# Altium schematic symbol library dungvh03-CERN_AnalogInterface.SchLib: 1053 symbols (part 11 of 12)
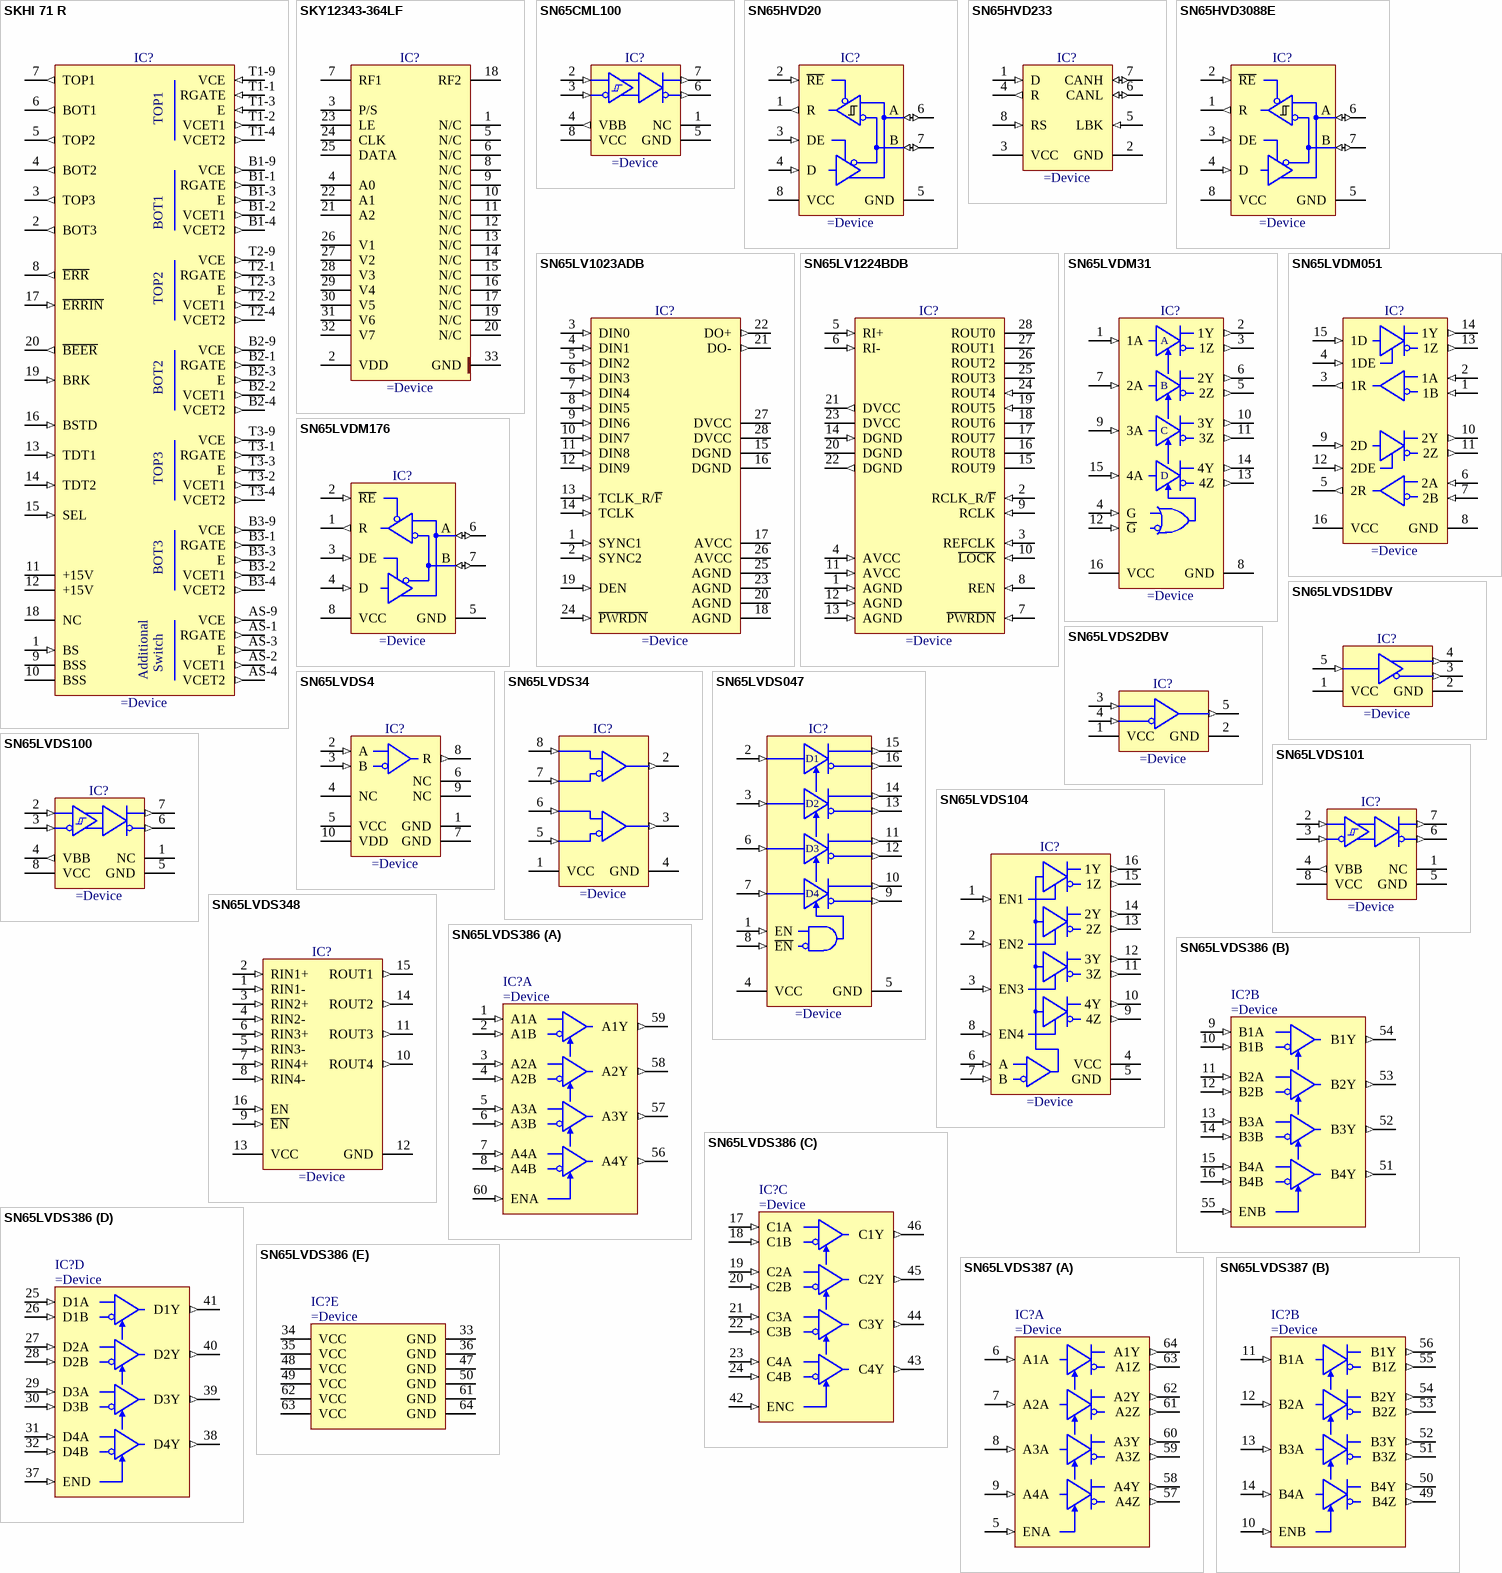
[diagram p77: symbols SKHI 71 R to SN65LVDS387]

## SN65LVDS101
designator IC?
Differential LVPECL Translator/Repeater
pins: 1 NC, 2 A (in), 3 B (in), 4 VBB (out), 5 GND (power), 6 Z (out), 7 Y (out), 8 VCC (power)

## SN65LVDS104
designator IC?
4-Port LVDS repeater
pins: 1 EN1 (in), 2 EN2 (in), 3 EN3 (in), 4 VCC (power), 5 GND (power), 6 A (in), 7 B (in), 8 EN4 (in), 9 4Z (out), 10 4Y (out), 11 3Z (out), 12 3Y (out), 13 2Z (out), 14 2Y (out), 15 1Z (out), 16 1Y (out)

## SN65LVDS348
designator IC?
Quad High-Speed Differential Receiver
pins: 1 RIN1- (in), 2 RIN1+ (in), 3 RIN2+ (in), 4 RIN2- (in), 5 RIN3- (in), 6 RIN3+ (in), 7 RIN4+ (in), 8 RIN4- (in), 9 ~{EN} (in), 10 ROUT4 (out), 11 ROUT3 (out), 12 GND (power), 13 VCC (power), 14 ROUT2 (out), 15 ROUT1 (out), 16 EN (in)

## SN65LVDS386
designator IC?
16 High-Speed Differential Line Receiver
part A pins: 1 A1A (in), 2 A1B (in), 3 A2A (in), 4 A2B (in), 5 A3A (in), 6 A3B (in), 7 A4A (in), 8 A4B (in), 56 A4Y (out), 57 A3Y (out), 58 A2Y (out), 59 A1Y (out), 60 ENA (in)
part B pins: 9 B1A (in), 10 B1B (in), 11 B2A (in), 12 B2B (in), 13 B3A (in), 14 B3B (in), 15 B4A (in), 16 B4B (in), 51 B4Y (out), 52 B3Y (out), 53 B2Y (out), 54 B1Y (out), 55 ENB (in)
part C pins: 17 C1A (in), 18 C1B (in), 19 C2A (in), 20 C2B (in), 21 C3A (in), 22 C3B (in), 23 C4A (in), 24 C4B (in), 42 ENC (in), 43 C4Y (out), 44 C3Y (out), 45 C2Y (out), 46 C1Y (out)
part D pins: 25 D1A (in), 26 D1B (in), 27 D2A (in), 28 D2B (in), 29 D3A (in), 30 D3B (in), 31 D4A (in), 32 D4B (in), 37 END (in), 38 D4Y (out), 39 D3Y (out), 40 D2Y (out), 41 D1Y (out)
part E pins: 33 GND (power), 34 VCC (power), 35 VCC (power), 36 GND (power), 47 GND (power), 48 VCC (power), 49 VCC (power), 50 GND (power), 61 GND (power), 62 VCC (power), 63 VCC (power), 64 GND (power)

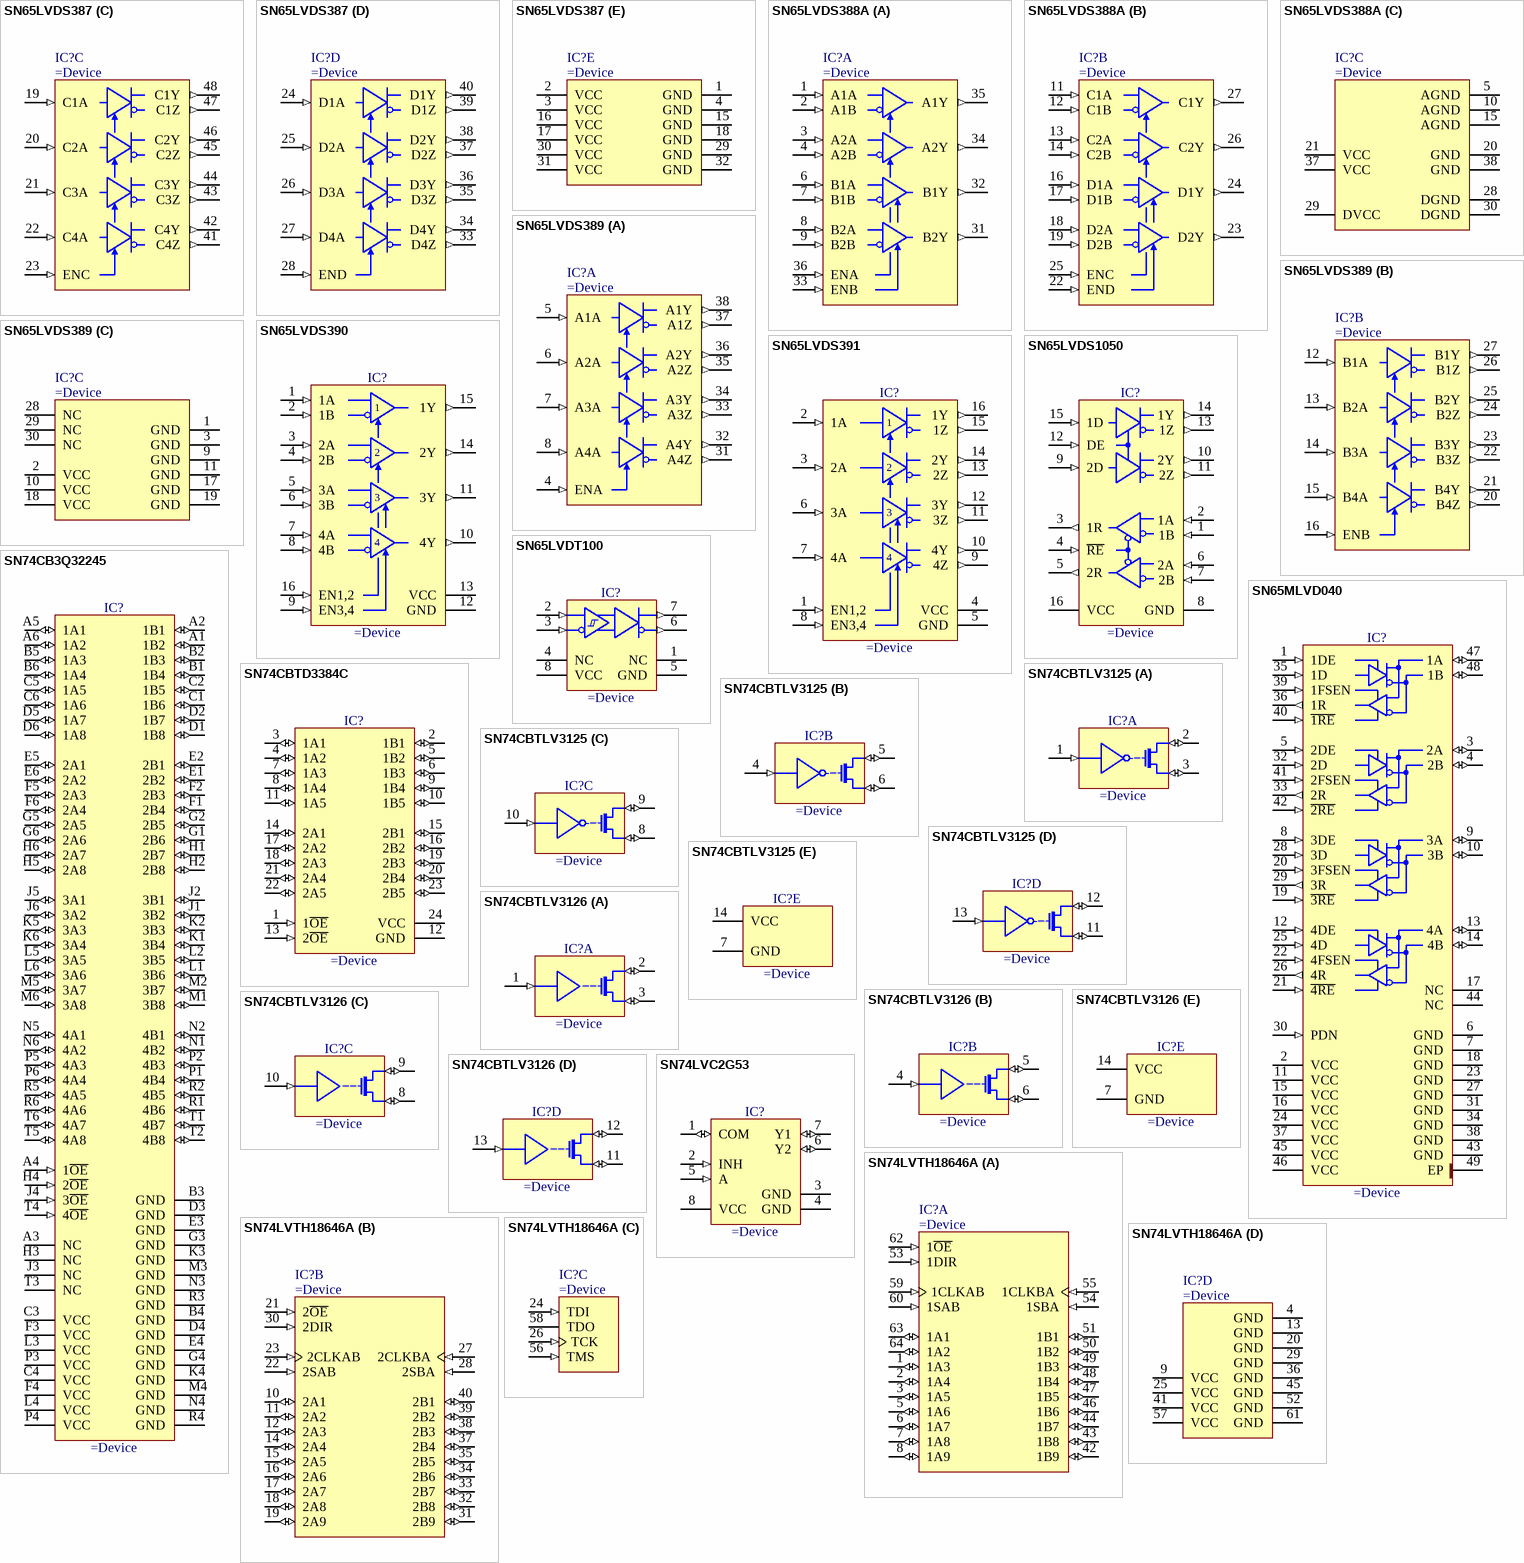
[diagram p58: symbols SN65LVDS387 to SN74LVTH18646A]

## SN65LVDS387
designator IC?
16 High-Speed Differential Line Driver
part A pins: 5 ENA (in), 6 A1A (in), 7 A2A (in), 8 A3A (in), 9 A4A (in), 57 A4Z (out), 58 A4Y (out), 59 A3Z (out), 60 A3Y (out), 61 A2Z (out), 62 A2Y (out), 63 A1Z (out), 64 A1Y (out)
part B pins: 10 ENB (in), 11 B1A (in), 12 B2A (in), 13 B3A (in), 14 B4A (in), 49 B4Z (out), 50 B4Y (out), 51 B3Z (out), 52 B3Y (out), 53 B2Z (out), 54 B2Y (out), 55 B1Z (out), 56 B1Y (out)
part C pins: 19 C1A (in), 20 C2A (in), 21 C3A (in), 22 C4A (in), 23 ENC (in), 41 C4Z (out), 42 C4Y (out), 43 C3Z (out), 44 C3Y (out), 45 C2Z (out), 46 C2Y (out), 47 C1Z (out), 48 C1Y (out)
part D pins: 24 D1A (in), 25 D2A (in), 26 D3A (in), 27 D4A (in), 28 END (in), 33 D4Z (out), 34 D4Y (out), 35 D3Z (out), 36 D3Y (out), 37 D2Z (out), 38 D2Y (out), 39 D1Z (out), 40 D1Y (out)
part E pins: 1 GND (power), 2 VCC (power), 3 VCC (power), 4 GND (power), 15 GND (power), 16 VCC (power), 17 VCC (power), 18 GND (power), 29 GND (power), 30 VCC (power), 31 VCC (power), 32 GND (power)

## SN65LVDS388A
designator IC?
8 High-Speed Differential Line Receiver
part A pins: 1 A1A (in), 2 A1B (in), 3 A2A (in), 4 A2B (in), 6 B1A (in), 7 B1B (in), 8 B2A (in), 9 B2B (in), 31 B2Y (out), 32 B1Y (out), 33 ENB (in), 34 A2Y (out), 35 A1Y (out), 36 ENA (in)
part B pins: 11 C1A (in), 12 C1B (in), 13 C2A (in), 14 C2B (in), 16 D1A (in), 17 D1B (in), 18 D2A (in), 19 D2B (in), 22 END (in), 23 D2Y (out), 24 D1Y (out), 25 ENC (in), 26 C2Y (out), 27 C1Y (out)
part C pins: 5 AGND (power), 10 AGND (power), 15 AGND (power), 20 GND (power), 21 VCC (power), 28 DGND (power), 29 DVCC (power), 30 DGND (power), 37 VCC (power), 38 GND (power)

## SN65LVDS389
designator IC?
8 High-Speed Differential Line Driver
part A pins: 4 ENA (in), 5 A1A (in), 6 A2A (in), 7 A3A (in), 8 A4A (in), 31 A4Z (out), 32 A4Y (out), 33 A3Z (out), 34 A3Y (out), 35 A2Z (out), 36 A2Y (out), 37 A1Z (out), 38 A1Y (out)
part B pins: 12 B1A (in), 13 B2A (in), 14 B3A (in), 15 B4A (in), 16 ENB (in), 20 B4Z (out), 21 B4Y (out), 22 B3Z (out), 23 B3Y (out), 24 B2Z (out), 25 B2Y (out), 26 B1Z (out), 27 B1Y (out)
part C pins: 1 GND (power), 2 VCC (power), 3 GND (power), 9 GND (power), 10 VCC (power), 11 GND (power), 17 GND (power), 18 VCC (power), 19 GND (power), 28 NC, 29 NC, 30 NC

## SN65LVDS390
designator IC?
4 High-Speed Differential Line Receiver
pins: 1 1A (in), 2 1B (in), 3 2A (in), 4 2B (in), 5 3A (in), 6 3B (in), 7 4A (in), 8 4B (in), 9 EN3,4 (in), 10 4Y (out), 11 3Y (out), 12 GND (power), 13 VCC (power), 14 2Y (out), 15 1Y (out), 16 EN1,2 (in)

## SN65LVDS391
designator IC?
4 High-Speed Differential Line Driver
pins: 1 EN1,2 (in), 2 1A (in), 3 2A (in), 4 VCC (power), 5 GND (power), 6 3A (in), 7 4A (in), 8 EN3,4 (in), 9 4Z (out), 10 4Y (out), 11 3Z (out), 12 3Y (out), 13 2Z (out), 14 2Y (out), 15 1Z (out), 16 1Y (out)

## SN65LVDS1050
designator IC?
High-Speed Differential Line Drivers And Receivers
pins: 1 1B (in), 2 1A (in), 3 1R (out), 4 ~{RE} (in), 5 2R (out), 6 2A (in), 7 2B (in), 8 GND (power), 9 2D (in), 10 2Y (out), 11 2Z (out), 12 DE (in), 13 1Z (out), 14 1Y (out), 15 1D (in), 16 VCC (power)

## SN65LVDT100
designator IC?
2Gbps LVDS/LVPECL/CML to LVDS Translator/Repeater
pins: 1 NC, 2 A (in), 3 B (in), 4 NC, 5 GND (power), 6 Z (out), 7 Y (out), 8 VCC (power)

## SN65MLVD040
designator IC?
4-Channel Half-Duplex M-LVDS Line Transceiver
pins: 1 1DE (in), 2 VCC (power), 3 2A (io), 4 2B (io), 5 2DE (in), 6 GND (power), 7 GND (power), 8 3DE (in), 9 3A (io), 10 3B (io), 11 VCC (power), 12 4DE (in), 13 4A (io), 14 4B (io), 15 VCC (power), 16 VCC (power), 17 NC, 18 GND (power), 19 ~{3RE} (in), 20 3FSEN (in), 21 ~{4RE} (in), 22 4FSEN (in), 23 GND (power), 24 VCC (power), 25 4D (in), 26 4R (out), 27 GND (power), 28 3D (in), 29 3R (out), 30 PDN (in), 31 GND (power), 32 2D (in), 33 2R (out), 34 GND (power), 35 1D (in), 36 1R (out), 37 VCC (power), 38 GND (power), 39 1FSEN (in), 40 ~{1RE} (in), 41 2FSEN (in), 42 ~{2RE} (in), 43 GND (power), 44 NC, 45 VCC (power), 46 VCC (power), 47 1A (io), 48 1B (io), 49 EP (power)

## SN74CB3Q32245
designator IC?
32-Bit Bus Switch, 2.5/3.3V High Bandwidth
pins: A1 1B2 (io), A2 1B1 (io), A3 NC, A4 1~{OE} (in), A5 1A1 (io), A6 1A2 (io), B1 1B4 (io), B2 1B3 (io), B3 GND (power), B4 GND (power), B5 1A3 (io), B6 1A4 (io), C1 1B6 (io), C2 1B5 (io), C3 VCC (power), C4 VCC (power), C5 1A5 (io), C6 1A6 (io), D1 1B8 (io), D2 1B7 (io), D3 GND (power), D4 GND (power), D5 1A7 (io), D6 1A8 (io), E1 2B2 (io), E2 2B1 (io), E3 GND (power), E4 GND (power), E5 2A1 (io), E6 2A2 (io), F1 2B4 (io), F2 2B3 (io), F3 VCC (power), F4 VCC (power), F5 2A3 (io), F6 2A4 (io), G1 2B6 (io), G2 2B5 (io), G3 GND (power), G4 GND (power), G5 2A5 (io), G6 2A6 (io), H1 2B7 (io), H2 2B8 (io), H3 NC, H4 2~{OE} (in), H5 2A8 (io), H6 2A7 (io), J1 3B2 (io), J2 3B1 (io), J3 NC, J4 3~{OE} (in), J5 3A1 (io), J6 3A2 (io), K1 3B4 (io), K2 3B3 (io), K3 GND (power), K4 GND (power), K5 3A3 (io), K6 3A4 (io), L1 3B6 (io), L2 3B5 (io), L3 VCC (power), L4 VCC (power), L5 3A5 (io), L6 3A6 (io), M1 3B8 (io), M2 3B7 (io), M3 GND (power), M4 GND (power), M5 3A7 (io), M6 3A8 (io), N1 4B2 (io), N2 4B1 (io), N3 GND (power), N4 GND (power), N5 4A1 (io), N6 4A2 (io), P1 4B4 (io), P2 4B3 (io), P3 VCC (power), P4 VCC (power), P5 4A3 (io), P6 4A4 (io), R1 4B6 (io), R2 4B5 (io), R3 GND (power), R4 GND (power), R5 4A5 (io), R6 4A6 (io), T1 4B7 (io), T2 4B8 (io), T3 NC, T4 4~{OE} (in), T5 4A8 (io), T6 4A7 (io)

## SN74CBTD3384C
designator IC?
10-Bit FET Bus Switches Level Shifting 5V Bus Switch with -2V Undershoot Protection
pins: 1 1~{OE} (in), 2 1B1 (io), 3 1A1 (io), 4 1A2 (io), 5 1B2 (io), 6 1B3 (io), 7 1A3 (io), 8 1A4 (io), 9 1B4 (io), 10 1B5 (io), 11 1A5 (io), 12 GND (power), 13 2~{OE} (in), 14 2A1 (io), 15 2B1 (io), 16 2B2 (io), 17 2A2 (io), 18 2A3 (io), 19 2B3 (io), 20 2B4 (io), 21 2A4 (io), 22 2A5 (io), 23 2B5 (io), 24 VCC (power)

## SN74CBTLV3125
designator IC?
Low-Voltage Quadruple FET Bus Switch
part A pins: 1 ~{OE} (in), 2 A (io), 3 Y (io)
part B pins: 4 ~{OE} (in), 5 A (io), 6 Y (io)
part C pins: 8 Y (io), 9 A (io), 10 ~{OE} (in)
part D pins: 11 Y (io), 12 A (io), 13 ~{OE} (in)
part E pins: 7 GND (power), 14 VCC (power)

## SN74CBTLV3126
designator IC?
Low-Voltage Quadruple FET Bus Switch
part A pins: 1 ~{OE} (in), 2 A (io), 3 Y (io)
part B pins: 4 ~{OE} (in), 5 A (io), 6 Y (io)
part C pins: 8 Y (io), 9 A (io), 10 ~{OE} (in)
part D pins: 11 Y (io), 12 A (io), 13 ~{OE} (in)
part E pins: 7 GND (power), 14 VCC (power)

## SN74LVC2G53
designator IC?
Single-Pole Double-Throw (SPDT) Analog Switch 2:1 Analog Multiplexer/Demultiplexer
pins: 1 COM (io), 2 INH (in), 3 GND (power), 4 GND (power), 5 A (in), 6 Y2 (io), 7 Y1 (io), 8 VCC (power)

## SN74LVTH18646A
designator IC?
3.3V ABT Scan Test Device With 18-Bit Transceivers And Registers
part A pins: 1 1A3 (io) "Normal-function A-bus I/O ports. See function table for normal-mode logic.", 2 1A4 (io) "Normal-function A-bus I/O ports. See function table for normal-mode logic.", 3 1A5 (io) "Normal-function A-bus I/O ports. See function table for normal-mode logic.", 5 1A6 (io) "Normal-function A-bus I/O ports. See function table for normal-mode logic.", 6 1A7 (io) "Normal-function A-bus I/O ports. See function table for normal-mode logic.", 7 1A8 (io) "Normal-function A-bus I/O ports. See function table for normal-mode logic.", 8 1A9 (io) "Normal-function A-bus I/O ports. See function table for normal-mode logic.", 42 1B9 (io) "Normal-function B-bus I/O ports. See function table for normal-mode logic.", 43 1B8 (io) "Normal-function B-bus I/O ports. See function table for normal-mode logic.", 44 1B7 (io) "Normal-function B-bus I/O ports. See function table for normal-mode logic.", 46 1B6 (io) "Normal-function B-bus I/O ports. See function table for normal-mode logic.", 47 1B5 (io) "Normal-function B-bus I/O ports. See function table for normal-mode logic.", 48 1B4 (io) "Normal-function B-bus I/O ports. See function table for normal-mode logic.", 49 1B3 (io) "Normal-function B-bus I/O ports. See function table for normal-mode logic.", 50 1B2 (io) "Normal-function B-bus I/O ports. See function table for normal-mode logic.", 51 1B1 (io) "Normal-function B-bus I/O ports. See function table for normal-mode logic.", 53 1DIR (in) "Normal-function direction controls. See function table for normal-mode logic.", 54 1SBA (in) "Normal-function select controls. See function table for normal-mode logic.", 55 1CLKBA (in) "Normal-function clock inputs. See function table for normal-mode logic.", 59 1CLKAB (in) "Normal-function clock inputs. See function table for normal-mode logic.", 60 1SAB (in) "Normal-function select controls. See function table for normal-mode logic.", 62 1~{OE} (in) "Normal-function output enables. See function table for normal-mode logic. An internal pullup at each terminal forces the terminal to a high level if left unconnected.", 63 1A1 (io) "Normal-function A-bus I/O ports. See function table for normal-mode logic.", 64 1A2 (io) "Normal-function A-bus I/O ports. See function table for normal-mode logic."
part B pins: 10 2A1 (io) "Normal-function A-bus I/O ports. See function table for normal-mode logic.", 11 2A2 (io) "Normal-function A-bus I/O ports. See function table for normal-mode logic.", 12 2A3 (io) "Normal-function A-bus I/O ports. See function table for normal-mode logic.", 14 2A4 (io) "Normal-function A-bus I/O ports. See function table for normal-mode logic.", 15 2A5 (io) "Normal-function A-bus I/O ports. See function table for normal-mode logic.", 16 2A6 (io) "Normal-function A-bus I/O ports. See function table for normal-mode logic.", 17 2A7 (io) "Normal-function A-bus I/O ports. See function table for normal-mode logic.", 18 2A8 (io) "Normal-function A-bus I/O ports. See function table for normal-mode logic.", 19 2A9 (io) "Normal-function A-bus I/O ports. See function table for normal-mode logic.", 21 2~{OE} (in) "Normal-function output enables. See function table for normal-mode logic. An internal pullup at each terminal forces the terminal to a high level if left unconnected.", 22 2SAB (in) "Normal-function select controls. See function table for normal-mode logic.", 23 2CLKAB (in) "Normal-function clock inputs. See function table for normal-mode logic.", 27 2CLKBA (in) "Normal-function clock inputs. See function table for normal-mode logic.", 28 2SBA (in) "Normal-function select controls. See function table for normal-mode logic.", 30 2DIR (in) "Normal-function direction controls. See function table for normal-mode logic.", 31 2B9 (io) "Normal-function B-bus I/O ports. See function table for normal-mode logic.", 32 2B8 (io) "Normal-function B-bus I/O ports. See function table for normal-mode logic.", 33 2B7 (io) "Normal-function B-bus I/O ports. See function table for normal-mode logic.", 34 2B6 (io) "Normal-function B-bus I/O ports. See function table for normal-mode logic.", 35 2B5 (io) "Normal-function B-bus I/O ports. See function table for normal-mode logic.", 37 2B4 (io) "Normal-function B-bus I/O ports. See function table for normal-mode logic.", 38 2B3 (io) "Normal-function B-bus I/O ports. See function table for normal-mode logic.", 39 2B2 (io) "Normal-function B-bus I/O ports. See function table for normal-mode logic.", 40 2B1 (io) "Normal-function B-bus I/O ports. See function table for normal-mode logic."
part C pins: 24 TDI (in) "Test data input. One of four terminals required by IEEE Std 1149.1-1990. TDI is the serial input for shifting data through the instruction register or selected data register. An internal pullup forces TDI to a high level if (See Datasheet)", 26 TCK (in) "Test clock. One of four terminals required by IEEE Std 1149.1-1990. Test operations of the device are synchronous to TCK. Data is captured on the rising edge of TCK and outputs change on the falling edge of TCK.", 56 TMS (in) "Test mode select. One of four terminals required by IEEE Std 1149.1-1990. TMS directs the device through its TAP controller states. An internal pullup forces TMS to a high level if left unconnected.", 58 TDO (hiz) "Test data output. One of four terminals required by IEEE Std 1149.1-1990. TDO is the serial output for shifting data through the instruction register or selected data register."
part D pins: 4 GND (power), 9 VCC (power) "Supply voltage", 13 GND (power), 20 GND (power), 25 VCC (power) "Supply voltage", 29 GND (power), 36 GND (power), 41 VCC (power) "Supply voltage", 45 GND (power), 52 GND (power), 57 VCC (power) "Supply voltage", 61 GND (power)

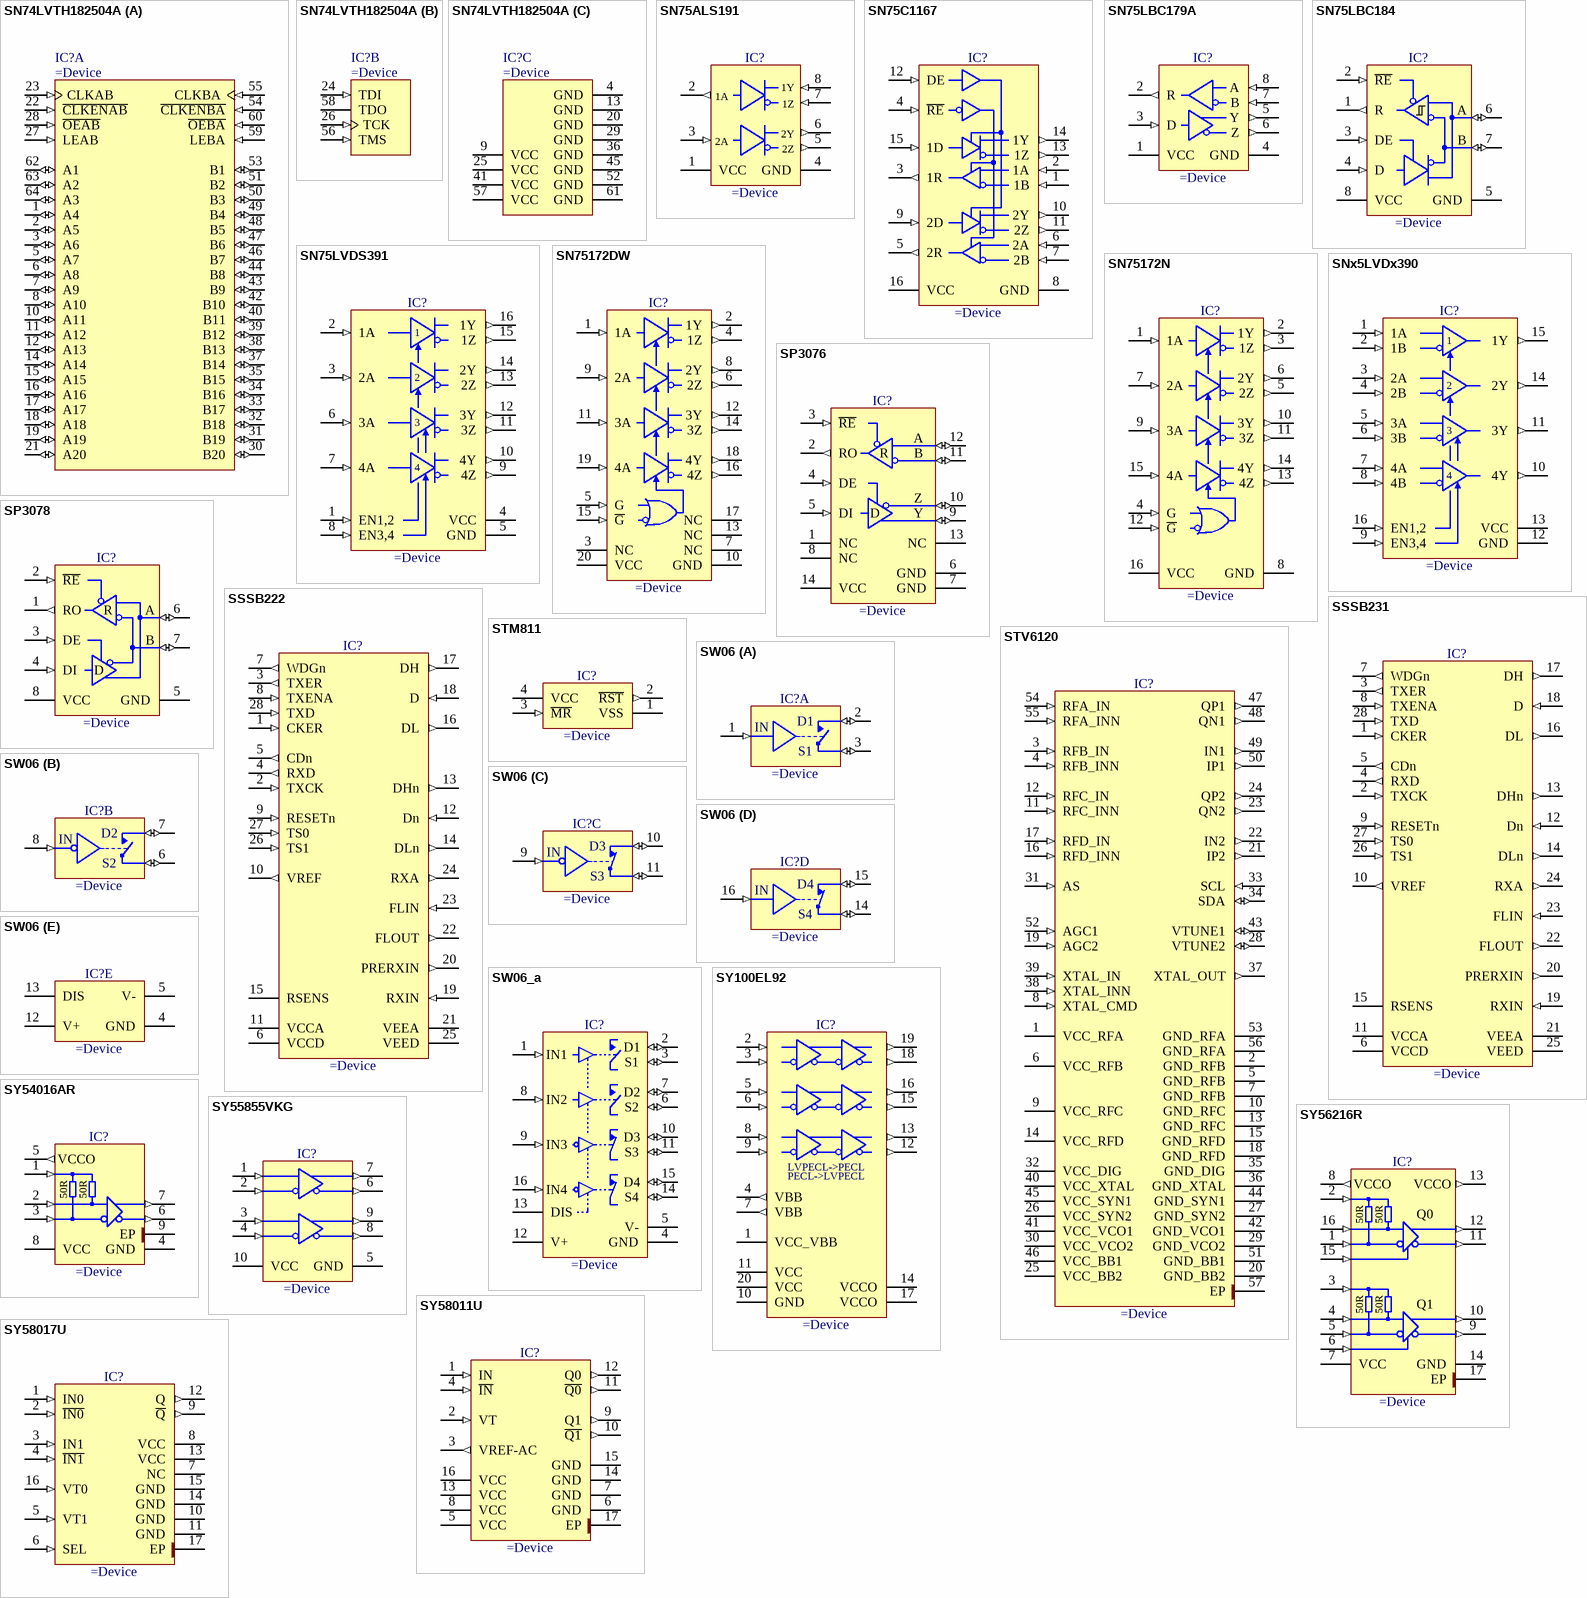
[diagram p59: symbols SN74LVTH182504A to SY58017U]

## SN74LVTH182504A
designator IC?
3.3V ABT Scan Test Device With 20-Bit Universal Bus Transceivers
part A pins: 1 A4 (io) "Normal-function A-bus I/O ports. See function table for normal-mode logic.", 2 A5 (io) "Normal-function A-bus I/O ports. See function table for normal-mode logic.", 3 A6 (io) "Normal-function A-bus I/O ports. See function table for normal-mode logic.", 5 A7 (io) "Normal-function A-bus I/O ports. See function table for normal-mode logic.", 6 A8 (io) "Normal-function A-bus I/O ports. See function table for normal-mode logic.", 7 A9 (io) "Normal-function A-bus I/O ports. See function table for normal-mode logic.", 8 A10 (io) "Normal-function A-bus I/O ports. See function table for normal-mode logic.", 10 A11 (io) "Normal-function A-bus I/O ports. See function table for normal-mode logic.", 11 A12 (io) "Normal-function A-bus I/O ports. See function table for normal-mode logic.", 12 A13 (io) "Normal-function A-bus I/O ports. See function table for normal-mode logic.", 14 A14 (io) "Normal-function A-bus I/O ports. See function table for normal-mode logic.", 15 A15 (io) "Normal-function A-bus I/O ports. See function table for normal-mode logic.", 16 A16 (io) "Normal-function A-bus I/O ports. See function table for normal-mode logic.", 17 A17 (io) "Normal-function A-bus I/O ports. See function table for normal-mode logic.", 18 A18 (io) "Normal-function A-bus I/O ports. See function table for normal-mode logic.", 19 A19 (io) "Normal-function A-bus I/O ports. See function table for normal-mode logic.", 21 A20 (io) "Normal-function A-bus I/O ports. See function table for normal-mode logic.", 22 ~{CLKENAB} (in) "Normal-function clock enables. See function table for normal-mode logic", 23 CLKAB (in) "Normal-function clock inputs. See function table for normal-mode logic.", 27 LEAB (in) "Normal-function latch enables. See function table for normal-mode logic", 28 ~{OEAB} (in) "Normal-function output enables. See function table for normal-mode logic. An internal pullup at each terminal forces the terminal to a high level if left unconnected.", 30 B20 (io) "Normal-function B-bus I/O ports. See function table for normal-mode logic.", 31 B19 (io) "Normal-function B-bus I/O ports. See function table for normal-mode logic.", 32 B18 (io) "Normal-function B-bus I/O ports. See function table for normal-mode logic.", 33 B17 (io) "Normal-function B-bus I/O ports. See function table for normal-mode logic.", 34 B16 (io) "Normal-function B-bus I/O ports. See function table for normal-mode logic.", 35 B15 (io) "Normal-function B-bus I/O ports. See function table for normal-mode logic.", 37 B14 (io) "Normal-function B-bus I/O ports. See function table for normal-mode logic.", 38 B13 (io) "Normal-function B-bus I/O ports. See function table for normal-mode logic.", 39 B12 (io) "Normal-function B-bus I/O ports. See function table for normal-mode logic.", 40 B11 (io) "Normal-function B-bus I/O ports. See function table for normal-mode logic.", 42 B10 (io) "Normal-function B-bus I/O ports. See function table for normal-mode logic.", 43 B9 (io) "Normal-function B-bus I/O ports. See function table for normal-mode logic.", 44 B8 (io) "Normal-function B-bus I/O ports. See function table for normal-mode logic.", 46 B7 (io) "Normal-function B-bus I/O ports. See function table for normal-mode logic.", 47 B6 (io) "Normal-function B-bus I/O ports. See function table for normal-mode logic.", 48 B5 (io) "Normal-function B-bus I/O ports. See function table for normal-mode logic.", 49 B4 (io) "Normal-function B-bus I/O ports. See function table for normal-mode logic.", 50 B3 (io) "Normal-function B-bus I/O ports. See function table for normal-mode logic.", 51 B2 (io) "Normal-function B-bus I/O ports. See function table for normal-mode logic.", 53 B1 (io) "Normal-function B-bus I/O ports. See function table for normal-mode logic.", 54 ~{CLKENBA} (in) "Normal-function clock enables. See function table for normal-mode logic", 55 CLKBA (in) "Normal-function clock inputs. See function table for normal-mode logic.", 59 LEBA (in) "Normal-function latch enables. See function table for normal-mode logic", 60 ~{OEBA} (in) "Normal-function output enables. See function table for normal-mode logic. An internal pullup at each terminal forces the terminal to a high level if left unconnected.", 62 A1 (io) "Normal-function A-bus I/O ports. See function table for normal-mode logic.", 63 A2 (io) "Normal-function A-bus I/O ports. See function table for normal-mode logic.", 64 A3 (io) "Normal-function A-bus I/O ports. See function table for normal-mode logic."
part B pins: 24 TDI (in) "Test data input. One of four terminals required by IEEE Std 1149.1-1990. TDI is the serial input for shifting data through the instruction register or selected data register. An internal pullup forces TDI to a high level if (See Datasheet)", 26 TCK (in) "Test clock. One of four terminals required by IEEE Std 1149.1-1990. Test operations of the device are synchronous to TCK. Data is captured on the rising edge of TCK and outputs change on the falling edge of TCK.", 56 TMS (in) "Test mode select. One of four terminals required by IEEE Std 1149.1-1990. TMS directs the device through its TAP controller states. An internal pullup forces TMS to a high level if left unconnected.", 58 TDO (hiz) "Test data output. One of four terminals required by IEEE Std 1149.1-1990. TDO is the serial output for shifting data through the instruction register or selected data register."
part C pins: 4 GND (power) "Ground", 9 VCC (power) "Supply voltage", 13 GND (power) "Ground", 20 GND (power) "Ground", 25 VCC (power) "Supply voltage", 29 GND (power) "Ground", 36 GND (power) "Ground", 41 VCC (power) "Supply voltage", 45 GND (power) "Ground", 52 GND (power) "Ground", 57 VCC (power) "Supply voltage", 61 GND (power) "Ground"

## SN75ALS191
designator IC?
Dual Differential Line Driver
pins: 1 VCC (power), 2 1A (out), 3 2A (in), 4 GND (power), 5 2Z (out), 6 2Y (out), 7 1Z (in), 8 1Y (in)

## SN75C1167
designator IC?
Dual Differential Drivers And Receivers
pins: 1 1B (in), 2 1A (in), 3 1R (out), 4 ~{RE} (in), 5 2R (out), 6 2A (in), 7 2B (in), 8 GND (power), 9 2D (in), 10 2Y (out), 11 2Z (out), 12 DE (in), 13 1Z (out), 14 1Y (out), 15 1D (in), 16 VCC (power)

## SN75LBC179A
designator IC?
RS-485 Low-Power Differential Line Driver And Receiver Pairs
pins: 1 VCC (power), 2 R (out), 3 D (in), 4 GND (power), 5 Y (out), 6 Z (out), 7 B (in), 8 A (in)

## SN75LBC184
designator IC?
Differential Transceiver with Transient Voltage Suppression
pins: 1 R (out), 2 ~{RE} (in), 3 DE (in), 4 D (in), 5 GND (power), 6 A (io), 7 B (io), 8 VCC (power)

## SN75LVDS391
designator IC?
4 High-Speed Differential Line Driver
pins: 1 EN1,2 (in), 2 1A (in), 3 2A (in), 4 VCC (power), 5 GND (power), 6 3A (in), 7 4A (in), 8 EN3,4 (in), 9 4Z (out), 10 4Y (out), 11 3Z (out), 12 3Y (out), 13 2Z (out), 14 2Y (out), 15 1Z (out), 16 1Y (out)

## SN75172DW
designator IC?
Quadruple Differential Line Driver
pins: 1 1A (in), 2 1Y (out), 3 NC, 4 1Z (out), 5 G (in), 6 2Z (out), 7 NC, 8 2Y (out), 9 2A (in), 10 GND (power), 11 3A (in), 12 3Y (out), 13 NC, 14 3Z (out), 15 ~{G} (in), 16 4Z (out), 17 NC, 18 4Y (out), 19 4A (in), 20 VCC (power)

## SN75172N
designator IC?
Quadruple Differential Line Driver
pins: 1 1A (in), 2 1Y (out), 3 1Z (out), 4 G (in), 5 2Z (out), 6 2Y (out), 7 2A (in), 8 GND (power), 9 3A (in), 10 3Y (out), 11 3Z (out), 12 ~{G} (in), 13 4Z (out), 14 4Y (out), 15 4A (in), 16 VCC (power)

## SNx5LVDx390
designator IC?
4 High-Speed Differential Line Receiver
pins: 1 1A (in), 2 1B (in), 3 2A (in), 4 2B (in), 5 3A (in), 6 3B (in), 7 4A (in), 8 4B (in), 9 EN3,4 (in), 10 4Y (out), 11 3Y (out), 12 GND (power), 13 VCC (power), 14 2Y (out), 15 1Y (out), 16 EN1,2 (in)

## SP3076
designator IC?
16Mbps ±15kV ESD-Protected, Full Duplex, Failsafe RS-485/RS422 Transceivers, 3.3V
pins: 1 NC, 2 RO (out), 3 ~{RE} (in), 4 DE (in), 5 DI (in), 6 GND (power), 7 GND (power), 8 NC, 9 Y (io), 10 Z (io), 11 B (io), 12 A (io), 13 NC, 14 VCC (power)
text: R; D

## SP3078
designator IC?
16Mbps ±15kV ESD-Protected, Half Duplex RS-485/RS422 Transceiver
pins: 1 RO (out), 2 ~{RE} (in), 3 DE (in), 4 DI (in), 5 GND (power), 6 A (io), 7 B (io), 8 VCC (power)
text: R; D

## SSSB222
designator IC?
FIELDDRIVE line driver
pins: 1 CKER (in) "Transmit error detect clock", 2 TXCK (in) "Half bit clock", 3 TXER (out) "Transmit data error", 4 RXD (out) "Received data", 5 CDn (out) "Carrier detect", 6 VCCD (power) "Digital positive supply +5V", 7 WDGn (out) "Transmitter watchdog", 8 TXENA (in) "Transmit data enable", 9 RESETn (in) "Initialization control", 10 VREF (out) "Voltage reference", 11 VCCA (power) "Analog positive supply +5V", 12 Dn (in) "Differential data line", 13 DHn (out) "Differential transmitter data", 14 DLn (out) "Differential transmitter data", 15 RSENS (power) "Driver supply", 16 DL (out) "Differential transmitter data", 17 DH (out) "Differential transmitter data", 18 D (in) "Differential data line", 19 RXIN (in) "Analog comparators", 20 PRERXIN (out) "Received, filtered an adapted data", 21 VEEA (power) "Analog ground", 22 FLOUT (out) "Active filter output", 23 FLIN (in) "Active filter input", 24 RXA (out) "Differential amplifier output", 25 VEED (power) "Digital ground", 26 TS1 (in) "TTL Input", 27 TS0 (in) "Test", 28 TXD (in) "Transmit data"

## SSSB231
designator IC?
FIELDDRIVE line driver
pins: 1 CKER (in) "Transmit error detect clock", 2 TXCK (in) "Half bit clock", 3 TXER (out) "Transmit data error", 4 RXD (out) "Received data", 5 CDn (out) "Carrier detect", 6 VCCD (power) "Digital positive supply +5V", 7 WDGn (out) "Transmitter watchdog", 8 TXENA (in) "Transmit data enable", 9 RESETn (in) "Initialization control", 10 VREF (out) "Voltage reference", 11 VCCA (power) "Analog positive supply +5V", 12 Dn (in) "Differential data line", 13 DHn (out) "Differential transmitter data", 14 DLn (out) "Differential transmitter data", 15 RSENS (power) "Driver supply", 16 DL (out) "Differential transmitter data", 17 DH (out) "Differential transmitter data", 18 D (in) "Differential data line", 19 RXIN (in) "Analog comparators", 20 PRERXIN (out) "Received, filtered an adapted data", 21 VEEA (power) "Analog ground", 22 FLOUT (out) "Active filter output", 23 FLIN (in) "Active filter input", 24 RXA (out) "Differential amplifier output", 25 VEED (power) "Digital ground", 26 TS1 (in) "TTL Input", 27 TS0 (in) "Test", 28 TXD (in) "Transmit data"

## STM811
designator IC?
Microprocessor Reset Circuit
pins: 1 VSS (power), 2 ~{RST} (out), 3 ~{MR} (in), 4 VCC (power)

## STV6120
designator IC?
8PSK/QPSK Low-Power 3.3V Dual Wide-Band Satellite Tuner IC
pins: 1 VCC_RFA (power) "VLNA supply voltage (RFA input)", 2 GND_RFB (power) "Ground for VLNA (RFB input)", 3 RFB_IN (in) "RFB positive input", 4 RFB_INN (in) "RFB AC grounded input or RFB negative input", 5 GND_RFB (power) "Ground for VLNA (RFB input)", 6 VCC_RFB (power) "VLNA supply voltage (RFB input)", 7 GND_RFB (power) "Ground for VLNA (RFB input)", 8 XTAL_CMD (in) "Mode select for reference path (internal 66-k pull-up resistor)", 9 VCC_RFC (power) "VLNA supply voltage (RFC input)", 10 GND_RFC (power) "Ground for VLNA (RFC input)", 11 RFC_INN (in) "RFC AC grounded input or negative input", 12 RFC_IN (in) "RFC positive input", 13 GND_RFC (power) "Ground for VLNA (RFC input)", 14 VCC_RFD (power) "VLNA supply voltage (RFD input)", 15 GND_RFD (power) "Ground for VLNA (RFD input)", 16 RFD_INN (in) "RFD AC grounded input or negative input", 17 RFD_IN (in) "RFD positive input", 18 GND_RFD (power) "Ground for VLNA (RFD input)", 19 AGC2 (in) "Automatic gain control input path 2", 20 GND_BB2 (power) "Ground base band path 2", 21 IP2 (out) "Positive base band in phase output path 2", 22 IN2 (out) "Negative base band in phase output path 2", 23 QN2 (out) "Negative base band in quadrature output path 2", 24 QP2 (out) "Positive base band in quadrature output path 2", 25 VCC_BB2 (power) "Base band path 2 power supply", 26 VCC_SYN2 (power) "Synthesizer path 2 power supply", 27 GND_SYN2 (power) "Ground for synthesizer path 2", 28 VTUNE2 (io) "Tuning voltage for path 2", 29 GND_VCO2 (power) "Ground for VCO path 2", 30 VCC_VCO2 (power) "VCO path 2 power supply", 31 AS (in) "Address select (internal 66-k pull-up resistor)", 32 VCC_DIG (power) "Digital supply voltage", 33 SCL (in) "2-wire bus data input (internal 5-k pull-up resistor)", 34 SDA (io) "2-wire bus clock input (internal 5-k pull-up resistor)", 35 GND_DIG (power) "Ground for digital", 36 GND_XTAL (power) "Ground for crystal oscillator", 37 XTAL_OUT (out) "Crystal oscillator output for demodulator", 38 XTAL_INN (in) "Crystal oscillator input 2 (inverted input)", 39 XTAL_IN (in) "Crystal oscillator input 1", 40 VCC_XTAL (power) "Crystal oscillator supply voltage", 41 VCC_VCO1 (power) "VCO path 1 supply voltage", 42 GND_VCO1 (power) "Ground for VCO path 1", 43 VTUNE1 (io) "Tuning voltage for path 1", 44 GND_SYN1 (power) "Ground for synthesizer path 1", 45 VCC_SYN1 (power) "Synthesizer path 1 power supply", 46 VCC_BB1 (power) "Base band path 1 power supply", 47 QP1 (out) "Positive base band in quadrature output path 1", 48 QN1 (out) "Negative base band in quadrature output path 1", 49 IN1 (out) "Negative base band in phase output path 1", 50 IP1 (out) "Positive base band in phase output path 1", 51 GND_BB1 (power) "Ground for base band path 1", 52 AGC1 (in) "Automatic gain control input path 1", 53 GND_RFA (power) "Ground for VLNA (RFA input)", 54 RFA_IN (in) "RFA positive input", 55 RFA_INN (in) "RFC AC grounded input or negative input", 56 GND_RFA (power) "Ground for VLNA (RFA input)", 57 EP (power)

## SW06
designator IC?
Quad SPST JFET Analog Switch
part A pins: 1 IN (in), 2 D (io), 3 S (io)
part B pins: 6 S (io), 7 D (io), 8 IN (in)
part C pins: 9 IN (in), 10 D (io), 11 S (io)
part D pins: 14 S (io), 15 D (io), 16 IN (in)
part E pins: 4 GND (power), 5 V- (power), 12 V+ (power), 13 DIS (power)
part A text: D1; S1
part B text: D2; S2
part C text: D3; S3
part D text: D4; S4

## SW06_a
designator IC?
Quad SPST JFET Analog Switch
pins: 1 IN1 (in), 2 D1 (io), 3 S1 (io), 4 GND (power), 5 V- (power), 6 S2 (io), 7 D2 (io), 8 IN2 (in), 9 IN3 (in), 10 D3 (io), 11 S3 (io), 12 V+ (power), 13 DIS (power), 14 S4 (io), 15 D4 (io), 16 IN4 (in)

## SY100EL92
designator IC?
Triple LVPECL-to-PECL or PECL-to-LVPECL Translator
pins: 1 VCC_VBB (power), 2 D0 (in), 3 ~{D0} (in), 4 VBB (out), 5 D1 (in), 6 ~{D1} (in), 7 VBB (out), 8 D2 (in), 9 ~{D2} (in), 10 GND (power), 11 VCC (power), 12 ~{Q2} (out), 13 Q2 (out), 14 VCCO (power), 15 ~{Q1} (out), 16 Q1 (out), 17 VCCO (power), 18 ~{Q0} (out), 19 Q0 (out), 20 VCC (power)
text: LVPECL->PECL; PECL->LVPECL

## SY54016AR
designator IC?
Low Voltage 1.2V/1.8V CML Differential Line Driver/Receiver 3.2Gbps, 3.2GHz
pins: 1 VT (in), 2 IN (in), 3 ~{IN} (in), 4 GND (power), 5 VCCO (out), 6 ~{Q} (out), 7 Q (out), 8 VCC (power), 9 EP (power)
text: 50R

## SY55855VKG
designator IC?
Dual CML/PECL/LVPECL-to-LVDS Translator
pins: 1 D0 (in), 2 ~{D0} (in), 3 D1 (in), 4 ~{D1} (in), 5 GND (power), 6 ~{Q1} (out), 7 Q1 (out), 8 ~{Q0} (out), 9 Q0 (out), 10 VCC (power)

## SY56216R
designator IC?
Low Voltage 1.2V/1.8V/2.5V CML Dual Channel Buffer 4.5GHz/6.4Gbps with Equalization
pins: 1 ~{IN0} (in), 2 VT0 (in), 3 VT1 (in), 4 IN1 (in), 5 ~{IN1} (in), 6 EQ1 (in), 7 VCC (power), 8 VCCO (out), 9 ~{Q1} (out), 10 Q1 (out), 11 ~{Q0} (out), 12 Q0 (out), 13 VCCO (out), 14 GND (power), 15 EQ0 (in), 16 IN0 (in), 17 EP (power)
text: 50R

## SY58011U
designator IC?
7GHz 1:2 CML Fanout Buffer/Translator w/400mv CML Outputs and Internal Input Termination
pins: 1 IN (in), 2 VT (in), 3 VREF-AC (out), 4 ~{IN} (in), 5 VCC (power), 6 GND (power), 7 GND (power), 8 VCC (power), 9 Q1 (out), 10 ~{Q1} (out), 11 ~{Q0} (out), 12 Q0 (out), 13 VCC (power), 14 GND (power), 15 GND (power), 16 VCC (power), 17 EP (power)

## SY58017U
designator IC?
10.7Gbps Differential CML 2:1 MUX with Internal Termination
pins: 1 IN0 (in), 2 ~{IN0} (in), 3 IN1 (in), 4 ~{IN1} (in), 5 VT1 (in), 6 SEL (in), 7 NC, 8 VCC (power), 9 ~{Q} (out), 10 GND (power), 11 GND (power), 12 Q (out), 13 VCC (power), 14 GND (power), 15 GND (power), 16 VT0 (in), 17 EP (power)

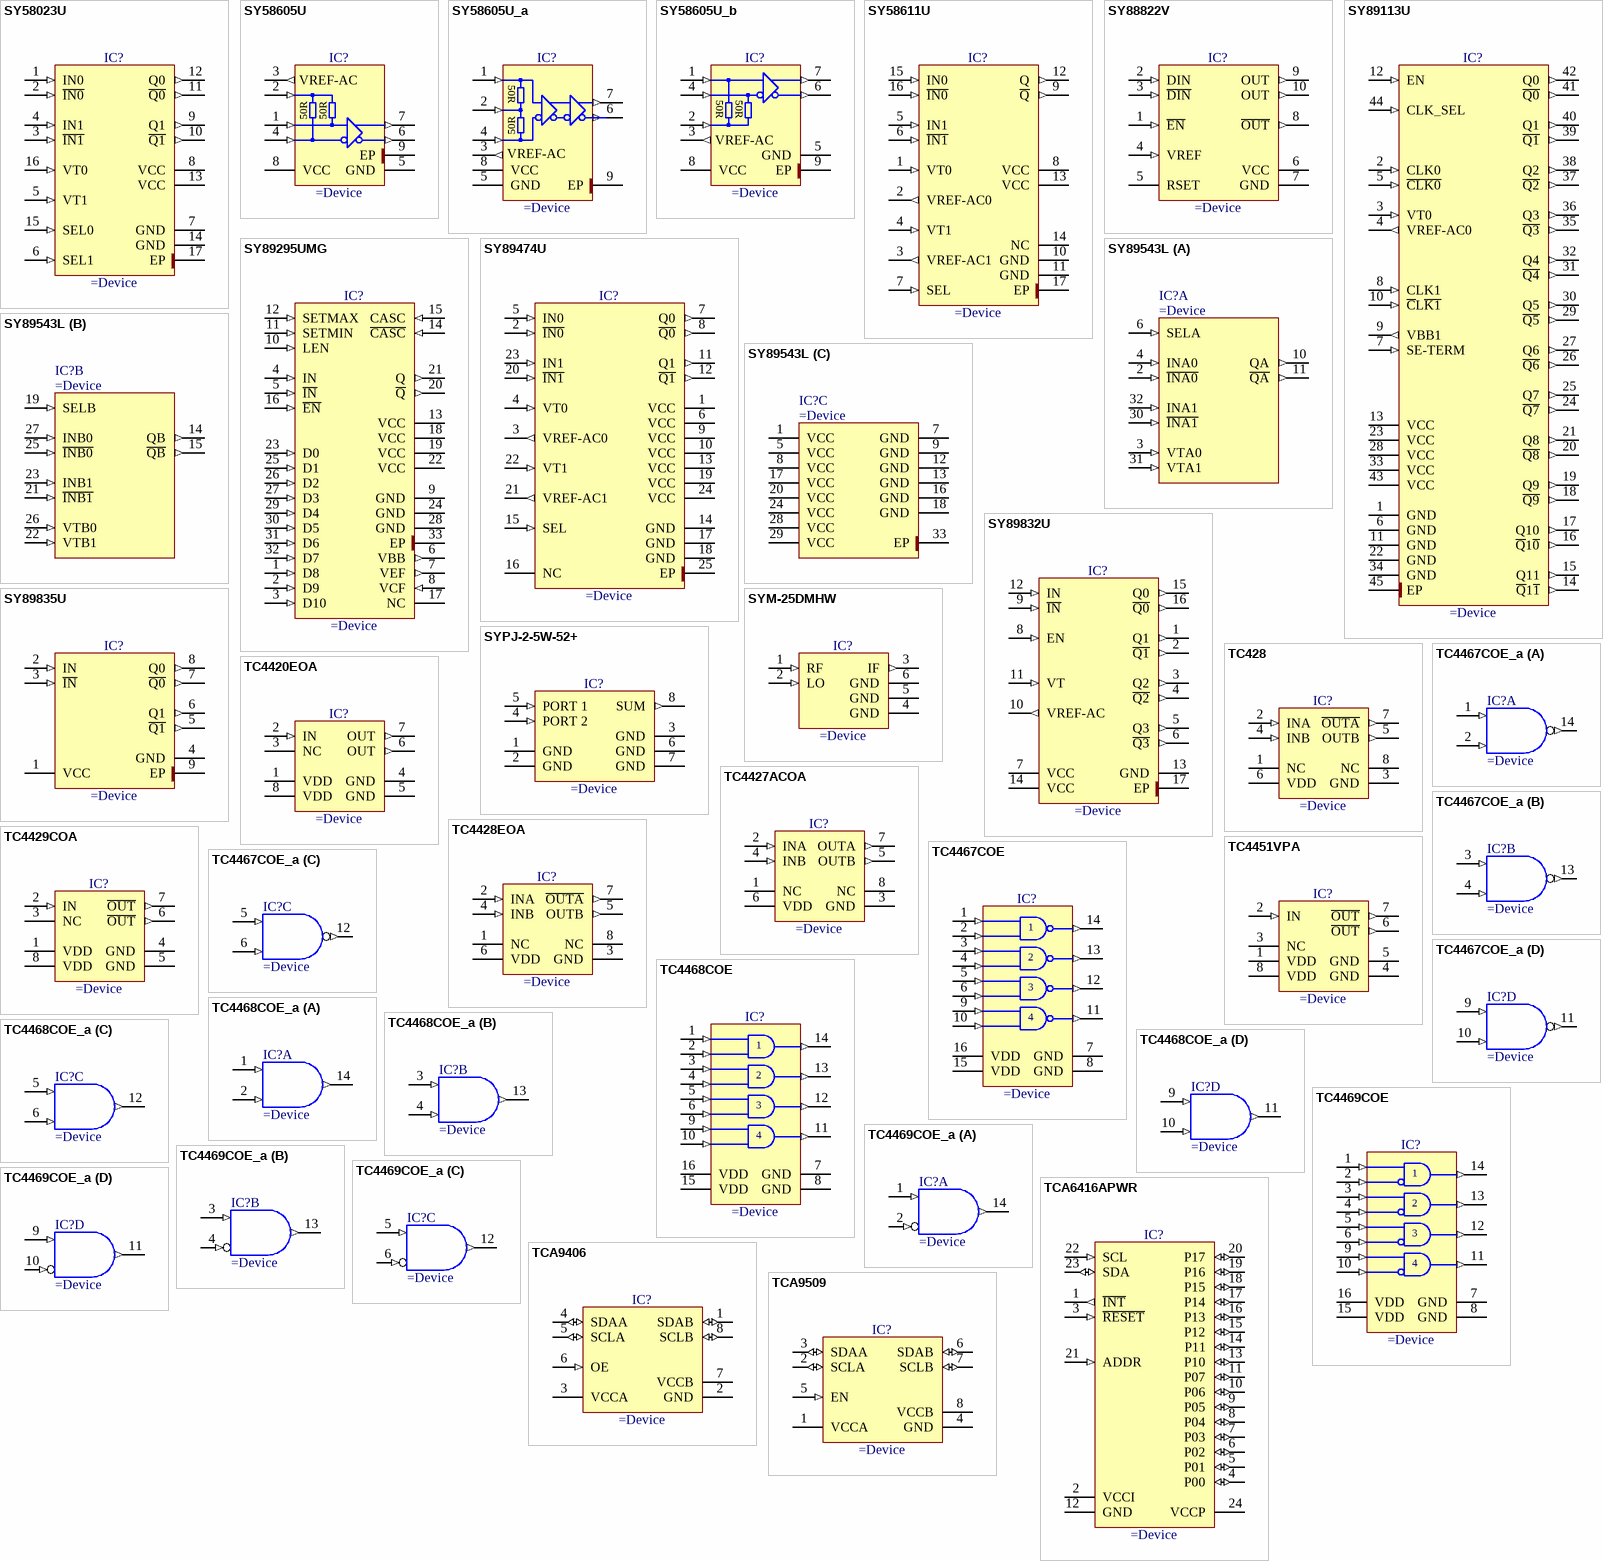
[diagram p60: symbols SY58023U to TCA9509]

## SY58023U
designator IC?
10.7Gbps 2 x 2 Crosspoint Switch w/CML Outputs and Internal Termination
pins: 1 IN0 (in), 2 ~{IN0} (in), 3 ~{IN1} (in), 4 IN1 (in), 5 VT1 (in), 6 SEL1 (in), 7 GND (power), 8 VCC (power), 9 Q1 (out), 10 ~{Q1} (out), 11 ~{Q0} (out), 12 Q0 (out), 13 VCC (power), 14 GND (power), 15 SEL0 (in), 16 VT0 (in), 17 EP (power)

## SY58605U
designator IC?
3.2Gbps Precision, LVDS Buffer with Internal Termination and Fail Safe Input
pins: 1 IN (in), 2 VT (in), 3 VREF-AC (out), 4 ~{IN} (in), 5 GND (power), 6 ~{Q} (out), 7 Q (out), 8 VCC (power), 9 EP (power)
text: 50R

## SY58605U_a
designator IC?
3.2Gbps Precision, LVDS Buffer with Internal Termination and Fail Safe Input
pins: 1 IN (in), 2 VT (in), 3 VREF-AC (out), 4 ~{IN} (in), 5 GND (power), 6 ~{Q} (out), 7 Q (out), 8 VCC (power), 9 EP (power)
text: 50R

## SY58605U_b
designator IC?
3.2Gbps Precision, LVDS Buffer with Internal Termination and Fail Safe Input
pins: 1 IN (in), 2 VT (in), 3 VREF-AC (out), 4 ~{IN} (in), 5 GND (power), 6 ~{Q} (out), 7 Q (out), 8 VCC (power), 9 EP (power)
text: 50R

## SY58611U
designator IC?
3.2Gbps Precision, 2:1 LVDS MUX With Internal Termination And Fail Safe Input
pins: 1 VT0 (in), 2 VREF-AC0 (out), 3 VREF-AC1 (out), 4 VT1 (in), 5 IN1 (in), 6 ~{IN1} (in), 7 SEL (in), 8 VCC (power), 9 ~{Q} (out), 10 GND (power), 11 GND (power), 12 Q (out), 13 VCC (power), 14 NC, 15 IN0 (in), 16 ~{IN0} (in), 17 EP (power)

## SY88822V
designator IC?
5V/3.3V 155Mbps Laser Diode Driver with Output Enable
pins: 1 ~{EN} (in), 2 DIN (in), 3 ~{DIN} (in), 4 VREF (in), 5 RSET, 6 VCC (power), 7 GND (power), 8 ~{OUT} (out), 9 OUT (out), 10 OUT (out)

## SY89113U
designator IC?
2.5V Low Jitter, Low Skew 1:12 LVDS Fanout Buffer with 2:1 Input MUX and Internal Termination
pins: 1 GND (power) "Ground", 2 CLK0 (in) "Differential Input", 3 VT0 (in) "Input Termination Center-Tap", 4 VREF-AC0 (out) "Reference Voltage: This output biases to VCC–1.2V", 5 ~{CLK0} (in) "Differential Input", 6 GND (power) "Ground", 7 SE-TERM (in) "Input Termination Pin", 8 CLK1 (in) "Differential Input", 9 VBB1 (out) "Reference Voltage: This output biases to VCC–1.425V", 10 ~{C}L~{K1} (in) "Differential Input", 11 GND (power) "Ground", 12 EN (in) "This single-ended, TTL/CMOS-compatible input functions as a synchronous output enable", 13 VCC (power) "Positive power supply", 14 ~{Q}1~{1} (out) "Differential LVDS Output", 15 Q11 (out) "Differential LVDS Output", 16 ~{Q}1~{0} (out) "Differential LVDS Output", 17 Q10 (out) "Differential LVDS Output", 18 ~{Q9} (out) "Differential LVDS Output", 19 Q9 (out) "Differential LVDS Output", 20 ~{Q8} (out) "Differential LVDS Output", 21 Q8 (out) "Differential LVDS Output", 22 GND (power) "Ground", 23 VCC (power) "Positive power supply", 24 ~{Q7} (out) "Differential LVDS Output", 25 Q7 (out) "Differential LVDS Output", 26 ~{Q6} (out) "Differential LVDS Output", 27 Q6 (out) "Differential LVDS Output", 28 VCC (power) "Positive power supply", 29 ~{Q5} (out) "Differential LVDS Output", 30 Q5 (out) "Differential LVDS Output", 31 ~{Q4} (out) "Differential LVDS Output", 32 Q4 (out) "Differential LVDS Output", 33 VCC (power) "Positive power supply", 34 GND (power) "Ground", 35 ~{Q3} (out) "Differential LVDS Output", 36 Q3 (out) "Differential LVDS Output", 37 ~{Q2} (out) "Differential LVDS Output", 38 Q2 (out) "Differential LVDS Output", 39 ~{Q1} (out) "Differential LVDS Output", 40 Q1 (out) "Differential LVDS Output", 41 ~{Q0} (out) "Differential LVDS Output", 42 Q0 (out) "Differential LVDS Output", 43 VCC (power) "Positive power supply", 44 CLK_SEL (in) "This single-ended, TTL/CMOS-compatible input selects the inputs to the multiplexer", 45 EP (power) "Exposed Pad"

## SY89295UMG
designator IC?
2.5V/3.3V 1.5GHz Precision LVPECL Programmable Delay
pins: 1 D8 (in), 2 D9 (in), 3 D10 (in), 4 IN (in), 5 ~{IN} (in), 6 VBB (out), 7 VEF (out), 8 VCF (in), 9 GND (power), 10 LEN (in), 11 SETMIN (in), 12 SETMAX (in), 13 VCC (power), 14 ~{CASC} (in), 15 CASC (in), 16 ~{EN} (in), 17 NC, 18 VCC (power), 19 VCC (power), 20 ~{Q} (out), 21 Q (out), 22 VCC (power), 23 D0 (in), 24 GND (power), 25 D1 (in), 26 D2 (in), 27 D3 (in), 28 GND (power), 29 D4 (in), 30 D5 (in), 31 D6 (in), 32 D7 (in), 33 EP (power)

## SY89474U
designator IC?
Precision LVDS 2:1 Multiplexer with 1:2 Fanout and Internal Termination
pins: 1 VCC (power), 2 ~{IN0} (in), 3 VREF-AC0 (out), 4 VT0 (in), 5 IN0 (in), 6 VCC (power), 7 Q0 (out), 8 ~{Q0} (out), 9 VCC (power), 10 VCC (power), 11 Q1 (out), 12 ~{Q1} (out), 13 VCC (power), 14 GND (power), 15 SEL (in), 16 NC, 17 GND (power), 18 GND (power), 19 VCC (power), 20 ~{IN1} (in), 21 VREF-AC1 (out), 22 VT1 (in), 23 IN1 (in), 24 VCC (power), 25 EP (power)

## SY89543L
designator IC?
3.3V, 3.2Gbps Dual, Differential 2:1 LVDS Multiplexer With Internal Termination
part A pins: 2 ~{INA0} (in), 3 VTA0 (in), 4 INA0 (in), 6 SELA (in), 10 QA (out), 11 ~{QA} (out), 30 ~{INA1} (in), 31 VTA1 (in), 32 INA1 (in)
part B pins: 14 QB (out), 15 ~{QB} (out), 19 SELB (in), 21 ~{INB1} (in), 22 VTB1 (in), 23 INB1 (in), 25 ~{INB0} (in), 26 VTB0 (in), 27 INB0 (in)
part C pins: 1 VCC (power), 5 VCC (power), 7 GND (power), 8 VCC (power), 9 GND (power), 12 GND (power), 13 GND (power), 16 GND (power), 17 VCC (power), 18 GND (power), 20 VCC (power), 24 VCC (power), 28 VCC (power), 29 VCC (power), 33 EP (power)

## SY89832U
designator IC?
2.5V Ultra-Precision 1:4 LVDS Fanout Buffer/Translator With Internal Termination
pins: 1 Q1 (out), 2 ~{Q1} (out), 3 Q2 (out), 4 ~{Q2} (out), 5 Q3 (out), 6 ~{Q3} (out), 7 VCC (power), 8 EN (in), 9 ~{IN} (in), 10 VREF-AC (out), 11 VT (in), 12 IN (in), 13 GND (power), 14 VCC (power), 15 Q0 (out), 16 ~{Q0} (out), 17 EP (power)

## SY89835U
designator IC?
2.5V, 2GHz (3.2 Gbps) Ultra-Precision, Differential 1:2 LVDS Fanout Buffer With Internal Termination and Fail Safe Input
pins: 1 VCC (power), 2 IN (in), 3 ~{IN} (in), 4 GND (power), 5 ~{Q1} (out), 6 Q1 (out), 7 ~{Q0} (out), 8 Q0 (out), 9 EP (power)

## SYM-25DMHW
designator IC?
Frequency Mixer - Level 13 (LO Power +13 dBm) 40 to 2500 MHz
pins: 1 RF (in), 2 LO (in), 3 IF (out), 4 GND (power), 5 GND (power), 6 GND (power)

## SYPJ-2-5W-52+
designator IC?
2 Way-180°, 50 Ohms, 10 to 520MHz, High Power Splitter
pins: 1 GND (power), 2 GND (power), 3 GND (power), 4 PORT 2 (in), 5 PORT 1 (in), 6 GND (power), 7 GND (power), 8 SUM (out)

## TC428
designator IC?
1.5A Dual High-Speed Power MOSFET Driver
pins: 1 NC, 2 INA (in), 3 GND (power), 4 INB (in), 5 OUTB (out), 6 VDD (power), 7 ~{OUTA} (out), 8 NC

## TC4420EOA
designator IC?
6A High-Speed MOSFET Drivers
pins: 1 VDD (power), 2 IN (in), 3 NC, 4 GND (power), 5 GND (power), 6 OUT (out), 7 OUT (out), 8 VDD (power)

## TC4427ACOA
designator IC?
1.5A Dual High-Speed Power MOSFET Drivers
pins: 1 NC (power), 2 INA (in), 3 GND (power), 4 INB (in), 5 OUTB (out), 6 VDD (power), 7 OUTA (out), 8 NC

## TC4428EOA
designator IC?
1.5A Dual High-Speed Power MOSFET Driver
pins: 1 NC (power), 2 INA (in), 3 GND (power), 4 INB (in), 5 OUTB (out), 6 VDD (power), 7 ~{OUTA} (out), 8 NC

## TC4429COA
designator IC?
6A High-Speed MOSFET Drivers
pins: 1 VDD (power), 2 IN (in), 3 NC, 4 GND (power), 5 GND (power), 6 ~{OUT} (out), 7 ~{OUT} (out), 8 VDD (power)

## TC4451VPA
designator IC?
12A High-Speed MOSFET Drivers
pins: 1 VDD (power), 2 IN (in), 3 NC, 4 GND (power), 5 GND (power), 6 ~{OUT} (out), 7 ~{OUT} (out), 8 VDD (power)

## TC4467COE
designator IC?
Logic-Input CMOS Quad Drivers
pins: 1 1A (in), 2 1B (in), 3 2A (in), 4 2B (in), 5 3A (in), 6 3B (in), 7 GND (power), 8 GND (power), 9 4A (in), 10 4B (in), 11 4Y (out), 12 3Y (out), 13 2Y (out), 14 1Y (out), 15 VDD (power), 16 VDD (power)

## TC4467COE_a
designator IC?
Logic-Input CMOS Quad Drivers
pins on every part: 7 GND (power) hidden to GND, 8 GND (power) hidden to GND, 15 VDD (power) hidden to VDD, 16 VDD (power) hidden to VDD
part A pins: 1 1A (in), 2 1B (in), 14 1Y (out)
part B pins: 3 2A (in), 4 2B (in), 13 2Y (out)
part C pins: 5 3A (in), 6 3B (in), 12 3Y (out)
part D pins: 9 4A (in), 10 4B (in), 11 4Y (out)

## TC4468COE
designator IC?
Logic-Input CMOS Quad Drivers
pins: 1 1A (in), 2 1B (in), 3 2A (in), 4 2B (in), 5 3A (in), 6 3B (in), 7 GND (power), 8 GND (power), 9 4A (in), 10 4B (in), 11 4Y (out), 12 3Y (out), 13 2Y (out), 14 1Y (out), 15 VDD (power), 16 VDD (power)

## TC4468COE_a
designator IC?
Logic-Input CMOS Quad Drivers
pins on every part: 7 GND (power) hidden to GND, 8 GND (power) hidden to GND, 15 VDD (power) hidden to VDD, 16 VDD (power) hidden to VDD
part A pins: 1 1A (in), 2 1B (in), 14 1Y (out)
part B pins: 3 2A (in), 4 2B (in), 13 2Y (out)
part C pins: 5 3A (in), 6 3B (in), 12 3Y (out)
part D pins: 9 4A (in), 10 4B (in), 11 4Y (out)

## TC4469COE
designator IC?
Logic-Input CMOS Quad Drivers
pins: 1 1A (in), 2 1B (in), 3 2A (in), 4 2B (in), 5 3A (in), 6 3B (in), 7 GND (power), 8 GND (power), 9 4A (in), 10 4B (in), 11 4Y (out), 12 3Y (out), 13 2Y (out), 14 1Y (out), 15 VDD (power), 16 VDD (power)

## TC4469COE_a
designator IC?
Logic-Input CMOS Quad Drivers
pins on every part: 7 GND (power) hidden to GND, 8 GND (power) hidden to GND, 15 VDD (power) hidden to VDD, 16 VDD (power) hidden to VDD
part A pins: 1 1A (in), 2 1B (in), 14 1Y (out)
part B pins: 3 2A (in), 4 2B (in), 13 2Y (out)
part C pins: 5 3A (in), 6 3B (in), 12 3Y (out)
part D pins: 9 4A (in), 10 4B (in), 11 4Y (out)

## TCA6416APWR
designator IC?
Low-Voltage 16-Bit I2C and SMBus I/O Expander
pins: 1 ~{INT} (out), 2 VCCI (power), 3 ~{RESET} (in), 4 P00 (io), 5 P01 (io), 6 P02 (io), 7 P03 (io), 8 P04 (io), 9 P05 (io), 10 P06 (io), 11 P07 (io), 12 GND (power), 13 P10 (io), 14 P11 (io), 15 P12 (io), 16 P13 (io), 17 P14 (io), 18 P15 (io), 19 P16 (io), 20 P17 (io), 21 ADDR (in), 22 SCL (in), 23 SDA (io), 24 VCCP (power)

## TCA9406
designator IC?
2-Bit Bidirectional 1-MHz, I2C Bus and SMBus Voltage-Level Translator With 8-kV HBM ESD
pins: 1 SDAB (io), 2 GND (power), 3 VCCA (power), 4 SDAA (io), 5 SCLA (io), 6 OE (in), 7 VCCB (power), 8 SCLB (io)

## TCA9509
designator IC?
Level-Translating I2C/SMBUS Bus Repeater
pins: 1 VCCA (power) "I2C-bus SCL", 2 SCLA (io) "Transmit Signal", 3 SDAA (io) "Negative Supply", 4 GND (power) "I2C-bus SDA", 5 EN (in) "Positive Supply Voltage", 6 SDAB (io) "Transmit Signal", 7 SCLB (io) "Receive Signal", 8 VCCB (power) "Receive Signal"

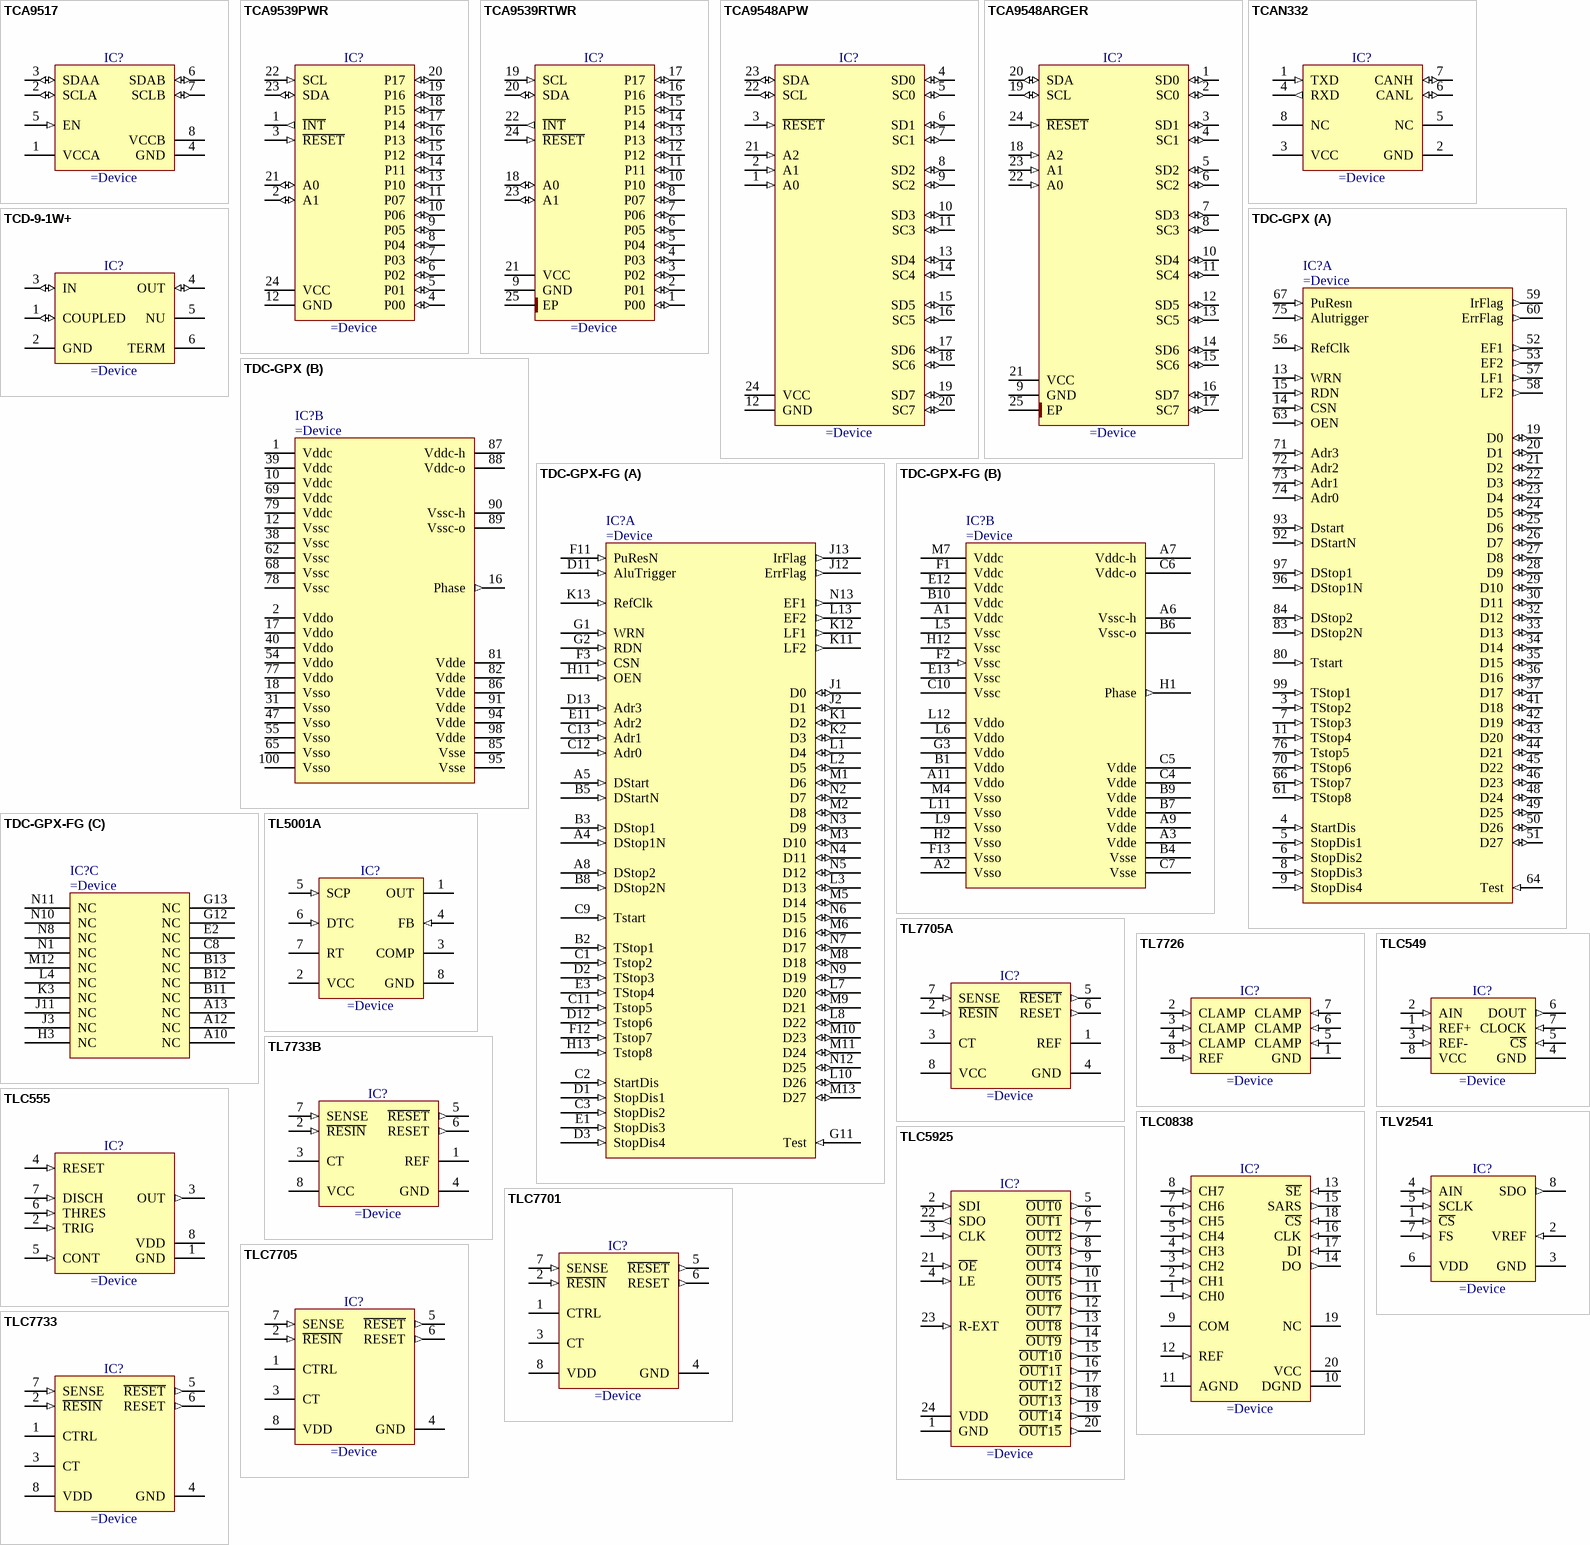
[diagram p61: symbols TCA9517 to TLV2541]

## TCA9517
designator IC?
Level-Translating I2C Bus Repeater
pins: 1 VCCA (power) "I2C-bus SCL", 2 SCLA (io) "Transmit Signal", 3 SDAA (io) "Negative Supply", 4 GND (power) "I2C-bus SDA", 5 EN (in) "Positive Supply Voltage", 6 SDAB (io) "Transmit Signal", 7 SCLB (io) "Receive Signal", 8 VCCB (power) "Receive Signal"

## TCA9539PWR
designator IC?
Low-Voltage 16-Bit I2C and SMBus I/O Expander
pins: 1 ~{INT} (out), 2 A1 (io), 3 ~{RESET} (in), 4 P00 (io), 5 P01 (io), 6 P02 (io), 7 P03 (io), 8 P04 (io), 9 P05 (io), 10 P06 (io), 11 P07 (io), 12 GND (power), 13 P10 (io), 14 P11 (io), 15 P12 (io), 16 P13 (io), 17 P14 (io), 18 P15 (io), 19 P16 (io), 20 P17 (io), 21 A0 (io), 22 SCL (in), 23 SDA (io), 24 VCC (power)

## TCA9539RTWR
designator IC?
Low-Voltage 16-Bit I2C and SMBus I/O Expander
pins: 1 P00 (io), 2 P01 (io), 3 P02 (io), 4 P03 (io), 5 P04 (io), 6 P05 (io), 7 P06 (io), 8 P07 (io), 9 GND (power), 10 P10 (io), 11 P11 (io), 12 P12 (io), 13 P13 (io), 14 P14 (io), 15 P15 (io), 16 P16 (io), 17 P17 (io), 18 A0 (io), 19 SCL (in), 20 SDA (io), 21 VCC (power), 22 ~{INT} (out), 23 A1 (io), 24 ~{RESET} (in), 25 EP (power)

## TCA9548APW
designator IC?
Low Voltage 8-Channel I2C Switch With Reset
pins: 1 A0 (in), 2 A1 (in), 3 ~{RESET} (in), 4 SD0 (io), 5 SC0 (io), 6 SD1 (io), 7 SC1 (io), 8 SD2 (io), 9 SC2 (io), 10 SD3 (io), 11 SC3 (io), 12 GND (power), 13 SD4 (io), 14 SC4 (io), 15 SD5 (io), 16 SC5 (io), 17 SD6 (io), 18 SC6 (io), 19 SD7 (io), 20 SC7 (io), 21 A2 (in), 22 SCL (io), 23 SDA (io), 24 VCC (power)

## TCA9548ARGER
designator IC?
Low Voltage 8-Channel I2C Switch With Reset
pins: 1 SD0 (io), 2 SC0 (io), 3 SD1 (io), 4 SC1 (io), 5 SD2 (io), 6 SC2 (io), 7 SD3 (io), 8 SC3 (io), 9 GND (power), 10 SD4 (io), 11 SC4 (io), 12 SD5 (io), 13 SC5 (io), 14 SD6 (io), 15 SC6 (io), 16 SD7 (io), 17 SC7 (io), 18 A2 (in), 19 SCL (io), 20 SDA (io), 21 VCC (power), 22 A0 (in), 23 A1 (in), 24 ~{RESET} (in), 25 EP (power)

## TCAN332
designator IC?
3.3V CAN Transceivers with CAN FD (Flexible Data Rate)
pins: 1 TXD (in), 2 GND (power), 3 VCC (power), 4 RXD (out), 5 NC, 6 CANL (io), 7 CANH (io), 8 NC

## TCD-9-1W+
designator IC?
50 Ohm, 5 To 2000MHz, Directional Coupler
pins: 1 COUPLED (io), 2 GND (power), 3 IN (io), 4 OUT (io), 5 NU, 6 TERM

## TDC-GPX
designator IC?
Multifunctional High-End Time-to-Digital Converter (4 different operation modes, 81 ps up to 10 ps resolution)
part A pins: 3 TStop2 (in), 4 StartDis (in), 5 StopDis1 (in), 6 StopDis2 (in), 7 TStop3 (in), 8 StopDis3 (in), 9 StopDis4 (in), 11 TStop4 (in), 13 WRN (in), 14 CSN (in), 15 RDN (in), 19 D0 (io), 20 D1 (io), 21 D2 (io), 22 D3 (io), 23 D4 (io), 24 D5 (io), 25 D6 (io), 26 D7 (io), 27 D8 (io), 28 D9 (io), 29 D10 (io), 30 D11 (io), 32 D12 (io), 33 D13 (io), 34 D14 (io), 35 D15 (io), 36 D16 (io), 37 D17 (io), 41 D18 (io), 42 D19 (io), 43 D20 (io), 44 D21 (io), 45 D22 (io), 46 D23 (io), 48 D24 (io), 49 D25 (io), 50 D26 (io), 51 D27 (io), 52 EF1 (out), 53 EF2 (out), 56 RefClk (in), 57 LF1 (out), 58 LF2 (out), 59 IrFlag (out), 60 ErrFlag (out), 61 TStop8 (in), 63 OEN (in), 64 Test (in), 66 TStop7 (in), 67 PuResn (in), 70 TStop6 (in), 71 Adr3 (in), 72 Adr2 (in), 73 Adr1 (in), 74 Adr0 (in), 75 Alutrigger (in), 76 Tstop5 (in), 80 Tstart (in), 83 DStop2N (in), 84 DStop2 (in), 92 DStartN (in), 93 Dstart (in), 96 DStop1N (in), 97 DStop1 (in), 99 TStop1 (in)
part B pins: 1 Vddc (power), 2 Vddo (power), 10 Vddc (power), 12 Vssc (power), 16 Phase (out), 17 Vddo (power), 18 Vsso (power), 31 Vsso (power), 38 Vssc (power), 39 Vddc (power), 40 Vddo (power), 47 Vsso (power), 54 Vddo (power), 55 Vsso (power), 62 Vssc (power), 65 Vsso (power), 68 Vssc (power), 69 Vddc (power), 77 Vddo (power), 78 Vssc (power), 79 Vddc (power), 81 Vdde (power), 82 Vdde (power), 85 Vsse (power), 86 Vdde (power), 87 Vddc-h (power), 88 Vddc-o (power), 89 Vssc-o (power), 90 Vssc-h (power), 91 Vdde (power), 94 Vdde (power), 95 Vsse (power), 98 Vdde (power), 100 Vsso (power)

## TDC-GPX-FG
designator IC?
Multifunctional High-End Time-to-Digital Converter (4 different operation modes, 81 ps up to 10 ps resolution)
part A pins: A4 DStop1N (in), A5 DStart (in), A8 DStop2 (in), B2 TStop1 (in), B3 DStop1 (in), B5 DStartN (in), B8 DStop2N (in), C1 Tstop2 (in), C2 StartDis (in), C3 StopDis2 (in), C9 Tstart (in), C11 Tstop5 (in), C12 Adr0 (in), C13 Adr1 (in), D1 StopDis1 (in), D2 TStop3 (in), D3 StopDis4 (in), D11 AluTrigger (in), D12 Tstop6 (in), D13 Adr3 (in), E1 StopDis3 (in), E3 TStop4 (in), E11 Adr2 (in), F3 CSN (in), F11 PuResN (in), F12 Tstop7 (in), G1 WRN (in), G2 RDN (in), G11 Test (in), H11 OEN (in), H13 Tstop8 (in), J1 D0 (io), J2 D1 (io), J12 ErrFlag (out), J13 IrFlag (out), K1 D2 (io), K2 D3 (io), K11 LF2 (out), K12 LF1 (out), K13 RefClk (in), L1 D4 (io), L2 D5 (io), L3 D13 (io), L7 D20 (io), L8 D22 (io), L10 D26 (io), L13 EF2 (out), M1 D6 (io), M2 D8 (io), M3 D10 (io), M5 D14 (io), M6 D16 (io), M8 D18 (io), M9 D21 (io), M10 D23 (io), M11 D24 (io), M13 D27 (io), N2 D7 (io), N3 D9 (io), N4 D11 (io), N5 D12 (io), N6 D15 (io), N7 D17 (io), N9 D19 (io), N12 D25 (io), N13 EF1 (out)
part B pins: A1 Vddc (power), A2 Vsso (power), A3 Vdde (power), A6 Vssc-h (power), A7 Vddc-h (power), A9 Vdde (power), A11 Vddo (power), B1 Vddo (power), B4 Vsse (power), B6 Vssc-o (power), B7 Vdde (power), B9 Vdde (power), B10 Vddc (power), C4 Vdde (power), C5 Vdde (power), C6 Vddc-o (power), C7 Vsse (power), C10 Vssc (power), E12 Vddc (power), E13 Vssc (power), F1 Vddc (power), F2 Vssc (in), F13 Vsso (power), G3 Vddo (power), H1 Phase (out), H2 Vsso (power), H12 Vssc (power), L5 Vssc (power), L6 Vddo (power), L9 Vsso (power), L11 Vsso (power), L12 Vddo (power), M4 Vsso (power), M7 Vddc (power)
part C pins: A10 NC, A12 NC, A13 NC, B11 NC, B12 NC, B13 NC, C8 NC, E2 NC, G12 NC, G13 NC, H3 NC, J3 NC, J11 NC, K3 NC, L4 NC, M12 NC, N1 NC, N8 NC, N10 NC, N11 NC

## TL5001A
designator IC?
Pulse-Width-Modulation Control Circuit
pins: 1 OUT (oc), 2 VCC (power), 3 COMP, 4 FB (in), 5 SCP (in), 6 DTC (in), 7 RT, 8 GND (power)

## TL7705A
designator IC?
Single Supply Voltage Supervisor for 5V Systems with Programmable Time Delay
pins: 1 REF, 2 ~{RESIN} (in), 3 CT, 4 GND (power), 5 ~{RESET} (out), 6 RESET (out), 7 SENSE (in), 8 VCC (power)

## TL7726
designator IC?
Hex Clamping Circuit
pins: 1 GND (power), 2 CLAMP (in), 3 CLAMP (in), 4 CLAMP (in), 5 CLAMP (in), 6 CLAMP (in), 7 CLAMP (in), 8 REF (in)

## TL7733B
designator IC?
3V Supply Voltage Supervisor
pins: 1 REF, 2 ~{RESIN} (in), 3 CT, 4 GND (power), 5 ~{RESET} (out), 6 RESET (out), 7 SENSE (in), 8 VCC (power)

## TLC549
designator IC?
8-Bit Analog-To-Digital Converter With Serial Control
pins: 1 REF+ (in), 2 AIN (in), 3 REF- (in), 4 GND (power), 5 ~{CS} (in), 6 DOUT (out), 7 CLOCK (in), 8 VCC (power)

## TLC555
designator IC?
LinCMOS Timer
pins: 1 GND (power), 2 TRIG (in), 3 OUT (out), 4 RESET (in), 5 CONT (in), 6 THRES (in), 7 DISCH (in), 8 VDD (power)

## TLC0838
designator IC?
8-Bit Analog-to-Digital Converter With Serial Control
pins: 1 CH0 (in), 2 CH1 (in), 3 CH2 (in), 4 CH3 (in), 5 CH4 (in), 6 CH5 (in), 7 CH6 (in), 8 CH7 (in), 9 COM (power), 10 DGND (power), 11 AGND (power), 12 REF (in), 13 ~{SE} (in), 14 DO (out), 15 SARS (out), 16 CLK (in), 17 DI (in), 18 ~{CS} (in), 19 NC, 20 VCC (power)

## TLC5925
designator IC?
Low-Power 16-Channel Constant-Current LED Sink Driver
pins: 1 GND (power), 2 SDI (in), 3 CLK (in), 4 LE (in), 5 ~{OUT0} (out), 6 ~{OUT1} (out), 7 ~{OUT2} (out), 8 ~{OUT3} (out), 9 ~{OUT4} (out), 10 ~{OUT5} (out), 11 ~{OUT6} (out), 12 ~{OUT7} (out), 13 ~{OUT8} (out), 14 ~{OUT9} (out), 15 ~{OUT}1~{0} (out), 16 ~{OUT}1~{1} (out), 17 ~{OUT}1~{2} (out), 18 ~{OUT}1~{3} (out), 19 ~{OUT}1~{4} (out), 20 ~{OUT}1~{5} (out), 21 ~{OE} (in), 22 SDO (out), 23 R-EXT (in), 24 VDD (power)

## TLC7701
designator IC?
1.1V Supply Voltage Supervisors With Programmable Time Delay
pins: 1 CTRL, 2 ~{RESIN} (in), 3 CT, 4 GND (power), 5 ~{RESET} (out), 6 RESET (out), 7 SENSE (in), 8 VDD (power)

## TLC7705
designator IC?
Micropower 5V Supply Voltage Supervisors With Programmable Time Delay & Push-Pull Outputs
pins: 1 CTRL, 2 ~{RESIN} (in), 3 CT, 4 GND (power), 5 ~{RESET} (out), 6 RESET (out), 7 SENSE (in), 8 VDD (power)

## TLC7733
designator IC?
2.93V Supply Voltage Supervisors With Programmable Time Delay
pins: 1 CTRL, 2 ~{RESIN} (in), 3 CT, 4 GND (power), 5 ~{RESET} (out), 6 RESET (out), 7 SENSE (in), 8 VDD (power)

## TLV2541
designator IC?
2.7V To 5.5V, Low-Power, 12-BIT, 200 kSPS, Serial DAC With Auto Power Down
pins: 1 ~{CS} (in), 2 VREF (in), 3 GND (power), 4 AIN (in), 5 SCLK (in), 6 VDD (power), 7 FS (in), 8 SDO (out)

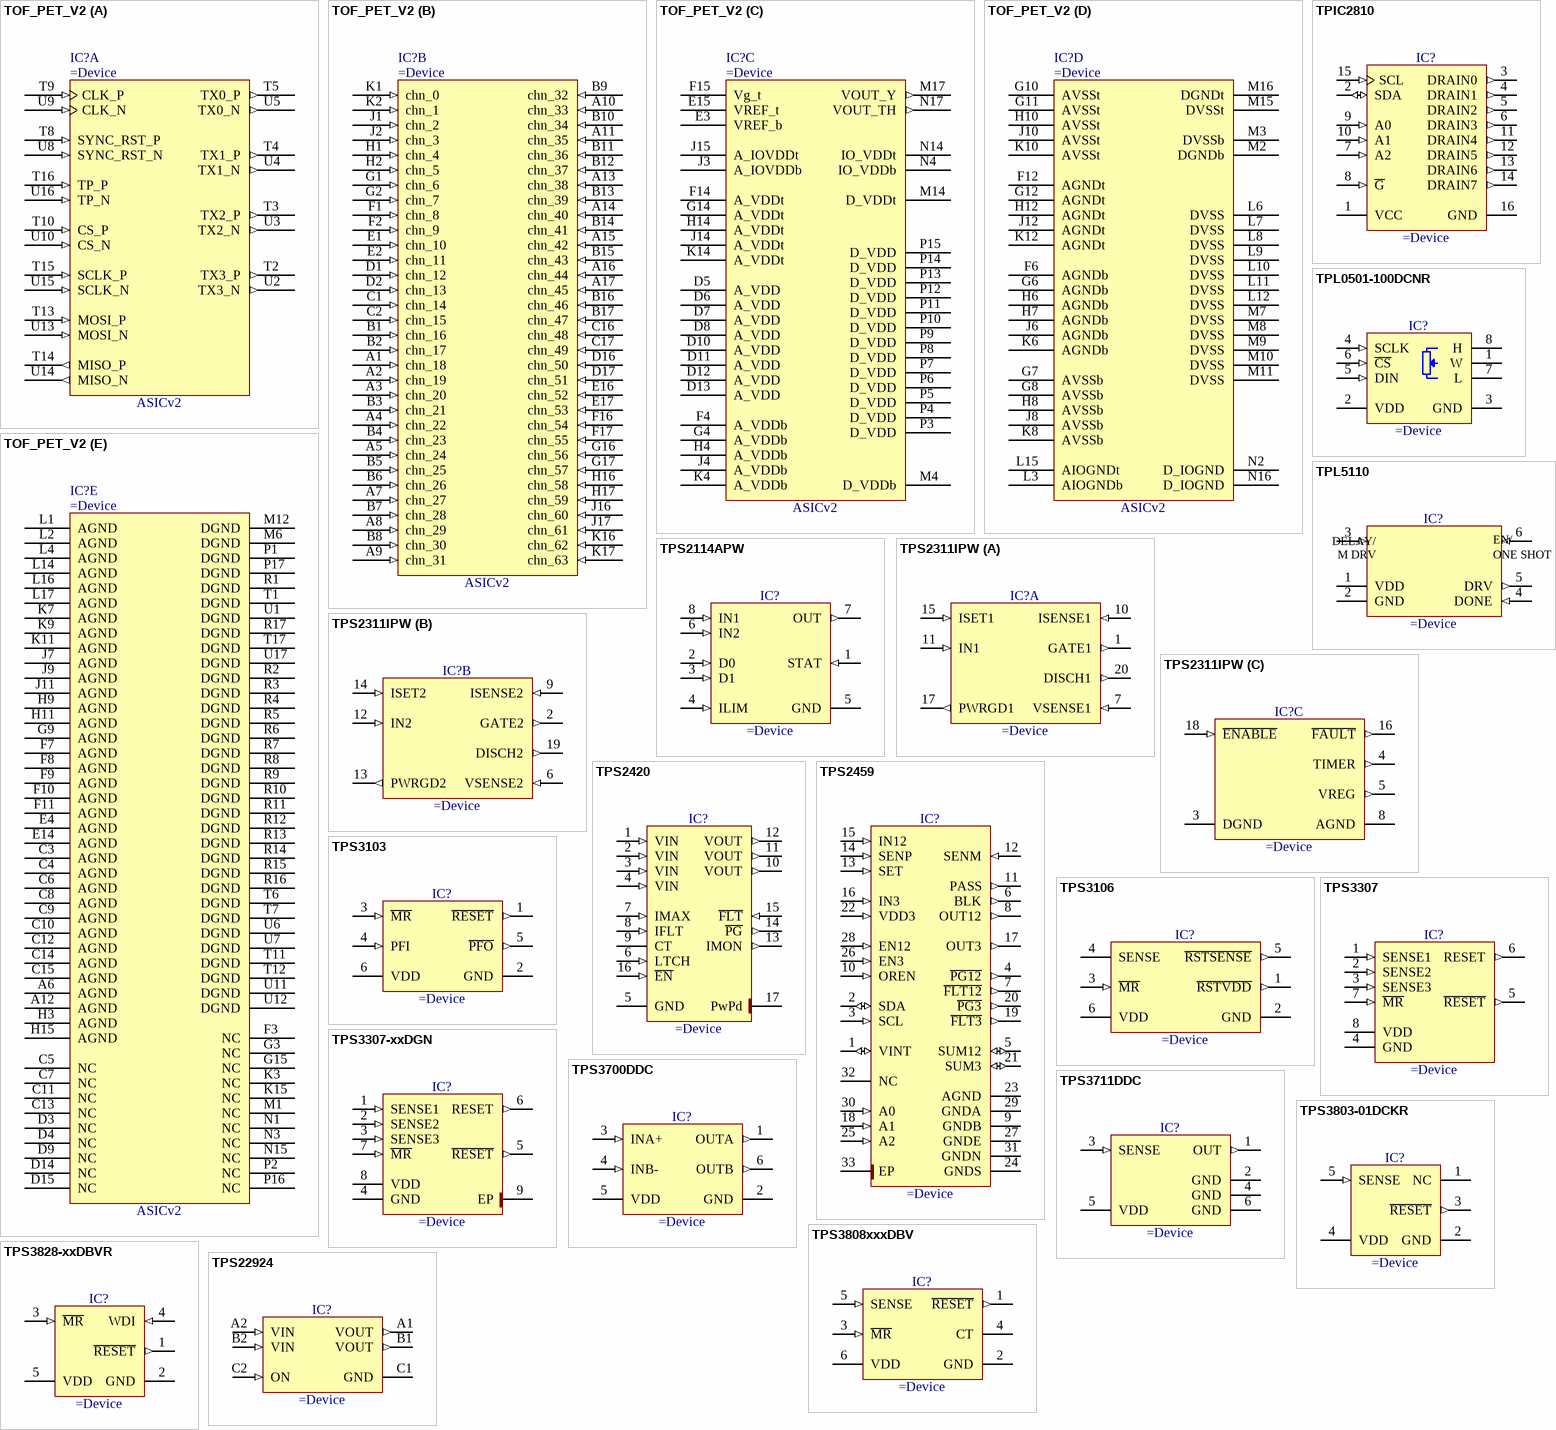
[diagram p62: symbols TOF_PET_V2 to TPS22924]